# Altium schematic symbol library Compilation.SchLib: 307 symbols (part 2 of 4)
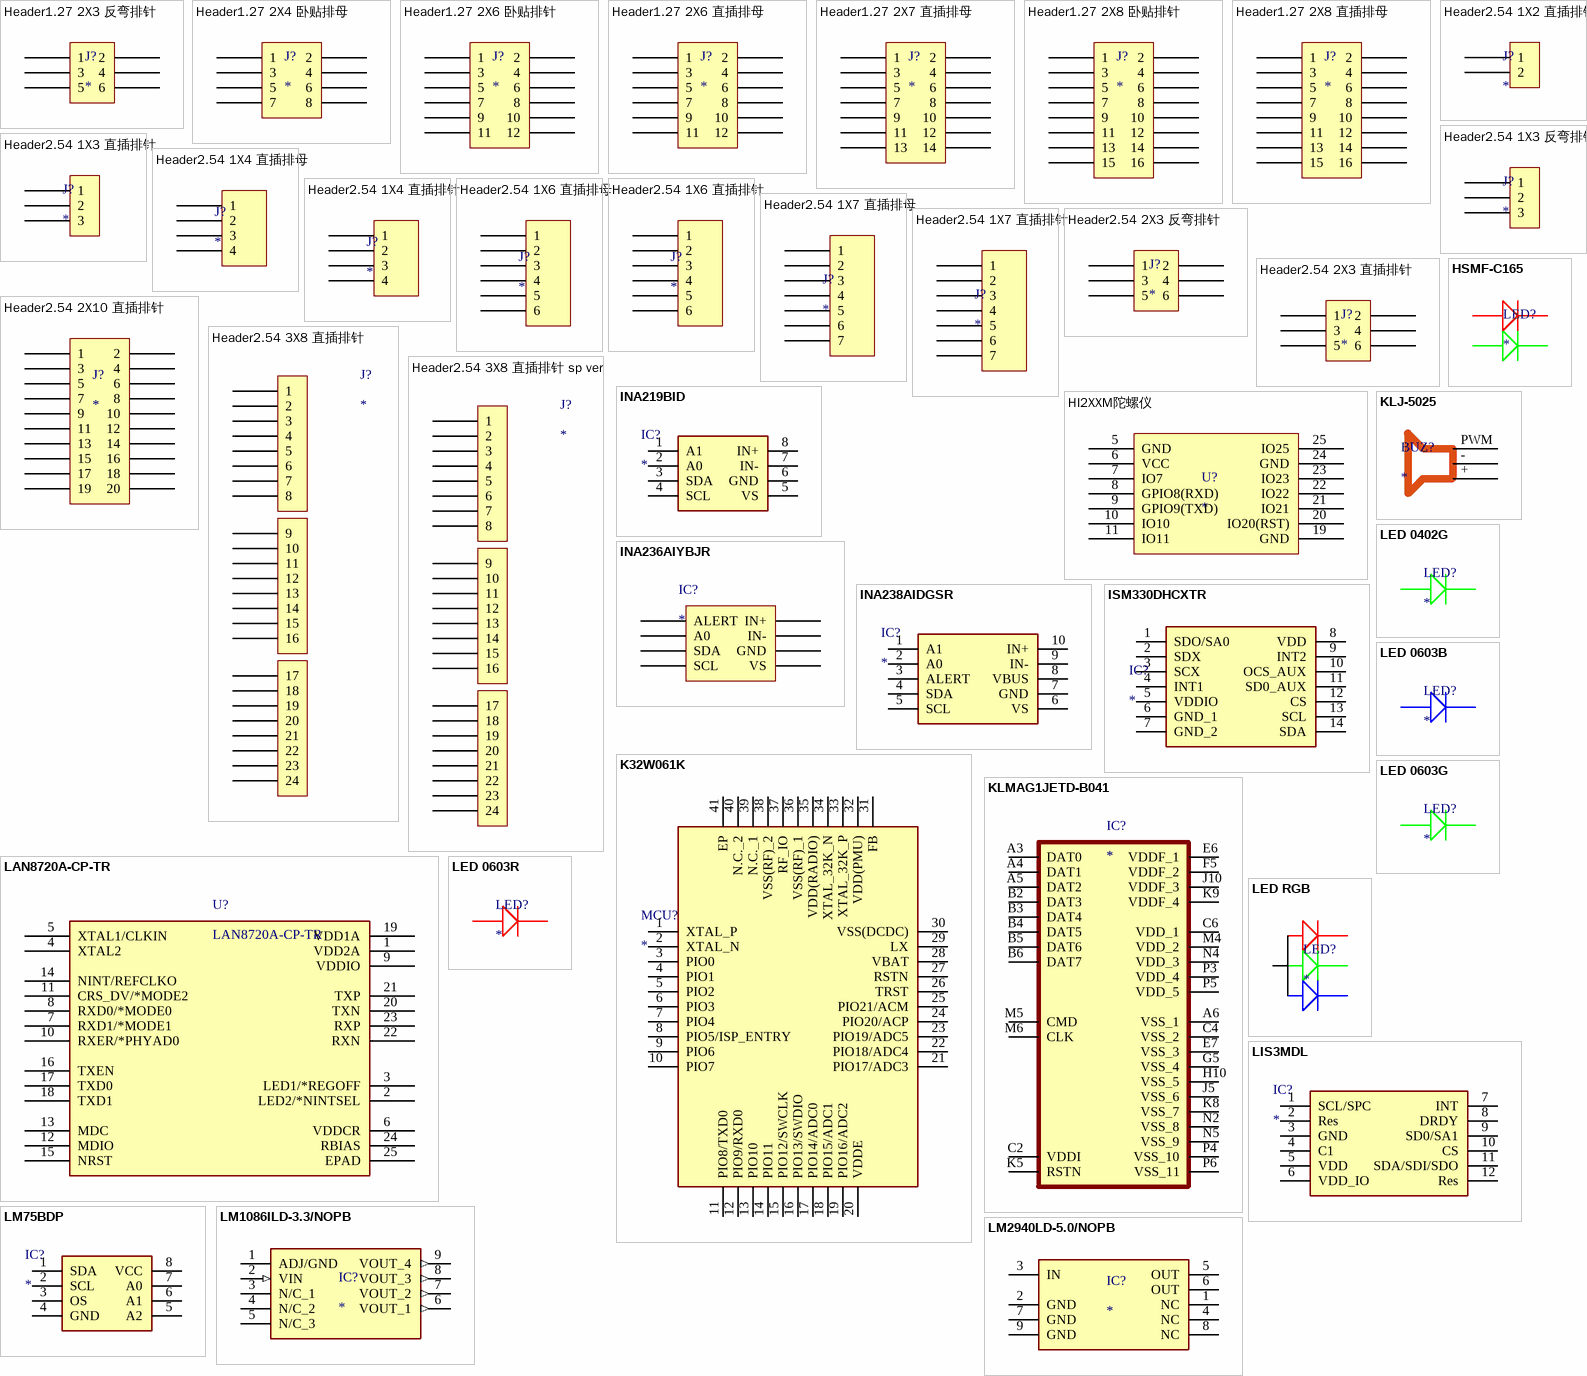
[diagram p18: symbols Header1.27 2X3 反弯排针 to LM2940LD-5.0/NOPB]

## HI2XXM陀螺仪
designator U?
MEMS
footprint HI2XXM陀螺仪
pins: 5 GND, 6 VCC, 7 IO7, 8 GPIO8(RXD), 9 GPIO9(TXD), 10 IO10, 11 IO11, 19 GND, 20 IO20(RST), 21 IO21, 22 IO22, 23 IO23, 24 GND, 25 IO25

## HSMF-C165
designator LED?
LED Red+Green; Manufacturer_Name: Avago Technologies; Manufacturer_Part_Number: HSMF-C165; Datasheet Link: https://www.broadcom.com/products/leds-and-displays/chip-leds/multi-color-surface-mount/hsmf-c165; Mouser Part Number: 630-HSMF-C165; Mouser Price/Stock: https://www.mouser.co.uk/ProductDetail/Broadcom-Avago/HSMF-C165?qs=YDL0qNrpDT44TO%2FTDNga2g%3D%3D
footprint HSMF-C165
pins: 1, 2, 3, 4

## INA219BID
designator IC?
Integrated Circuit; Manufacturer_Name: Texas Instruments; Manufacturer_Part_Number: INA219BID; Datasheet Link: http://www.ti.com/lit/gpn/INA219; Height: 1.75mm; Mouser Part Number: 595-INA219BID; Mouser Price/Stock: https://www.mouser.co.uk/ProductDetail/Texas-Instruments/INA219BID?qs=1WmUhT%2FVMIOEOZ2ZxHP1Nw%3D%3D; Arrow Part Number: INA219BID; Arrow Price/Stock: https://www.arrow.com/en/products/ina219bid/texas-instruments?region=nac
footprint SOIC-8
pins: 1 A1, 2 A0, 3 SDA, 4 SCL, 5 VS, 6 GND, 7 IN-, 8 IN+

## INA236AIYBJR
designator IC?
Integrated Circuit
footprint INA236AIYBJR
pins: A1 ALERT, A2 IN+, B1 A0, B2 IN-, C1 SDA, C2 GND, D1 SCL, D2 VS

## INA238AIDGSR
designator IC?
Integrated Circuit; Manufacturer_Name: Texas Instruments; Manufacturer_Part_Number: INA238AIDGSR; Datasheet Link: https://www.ti.com/lit/ds/symlink/ina238.pdf?ts=1623483707955&ref_url=https%253A%252F%252Fwww.ti.com%252Fstore%252Fti%252Fen%252Fp%252Fproduct%252F%253Fp%253DINA238AIDGSR; Height: 1.1mm; Mouser Part Number: 595-INA238AIDGSR; Mouser Price/Stock: https://www.mouser.co.uk/ProductDetail/Texas-Instruments/INA238AIDGSR?qs=DRkmTr78QAQpWvQMAkqDfQ%3D%3D; Arrow Part Number: INA238AIDGSR; Arrow Price/Stock: https://www.arrow.com/en/products/ina238aidgsr/texas-instruments?region=nac
footprint INA238AIDGSR
pins: 1 A1, 2 A0, 3 ALERT, 4 SDA, 5 SCL, 6 VS, 7 GND, 8 VBUS, 9 IN-, 10 IN+

## ISM330DHCXTR
designator IC?
MEMS; Manufacturer_Name: STMicroelectronics; Manufacturer_Part_Number: ISM330DLCTR; Datasheet Link: http://www.st.com/content/ccc/resource/technical/document/datasheet/group3/84/e6/69/e3/67/b8/43/2d/DM00399923/files/DM00399923.pdf/jcr:content/translations/en.DM00399923.pdf; Mouser Part Number: 511-ISM330DLCTR; Mouser Price/Stock: https://www.mouser.co.uk/ProductDetail/STMicroelectronics/ISM330DLCTR?qs=HXFqYaX1Q2xJsRh9qTmUlw%3D%3D; Arrow Part Number: ISM330DLCTR; Arrow Price/Stock: https://www.arrow.com/en/products/ism330dlctr/stmicroelectronics
footprint ISM330DHCXTR
pins: 1 SDO/SA0, 2 SDX, 3 SCX, 4 INT1, 5 VDDIO, 6 GND_1, 7 GND_2, 8 VDD, 9 INT2, 10 OCS_AUX, 11 SD0_AUX, 12 CS, 13 SCL, 14 SDA

## K32W061K
designator MCU?
MCU; Manufacturer_Name: NXP; Manufacturer_Part_Number: K32W061K; Datasheet Link: https://www.nxp.com/docs/en/data-sheet/K32W061.pdf; Height: 1mm
footprint K32W061K
pins: 1 XTAL_P, 2 XTAL_N, 3 PIO0, 4 PIO1, 5 PIO2, 6 PIO3, 7 PIO4, 8 PIO5/ISP_ENTRY, 9 PIO6, 10 PIO7, 11 PIO8/TXD0, 12 PIO9/RXD0, 13 PIO10, 14 PIO11, 15 PIO12/SWCLK, 16 PIO13/SWDIO, 17 PIO14/ADC0, 18 PIO15/ADC1, 19 PIO16/ADC2, 20 VDDE, 21 PIO17/ADC3, 22 PIO18/ADC4, 23 PIO19/ADC5, 24 PIO20/ACP, 25 PIO21/ACM, 26 TRST, 27 RSTN, 28 VBAT, 29 LX, 30 VSS(DCDC), 31 FB, 32 VDD(PMU), 33 XTAL_32K_P, 34 XTAL_32K_N, 35 VDD(RADIO), 36 VSS(RF)_1, 37 RF_IO, 38 VSS(RF)_2, 39 N.C._1, 40 N.C._2, 41 EP

## KLJ-5025
designator BUZ?
Buzzer
footprint KLJ-5025
pins: 1, 2, 3
text: PWM; -; +

## KLMAG1JETD-B041
designator IC?
Memory; Manufacturer_Name: Samsung; Manufacturer_Part_Number: KLM8G1GETF-B0410; Datasheet Link: https://datasheet.lcsc.com/lcsc/2007301503_Samsung-KLM8G1GETF-B041_C499918.pdf; Height: 0.8mm; Arrow Part Number: KLM8G1GETF-B0410; Arrow Price/Stock: https://www.arrow.com/en/products/klm8g1getf-b0410/samsung-electronics
footprint FBGA153
pins: A3 DAT0, A4 DAT1, A5 DAT2, A6 VSS_1, B2 DAT3, B3 DAT4, B4 DAT5, B5 DAT6, B6 DAT7, C2 VDDI, C4 VSS_2, C6 VDD_1, E6 VDDF_1, E7 VSS_3, F5 VDDF_2, G5 VSS_4, H10 VSS_5, J5 VSS_6, J10 VDDF_3, K5 RSTN, K8 VSS_7, K9 VDDF_4, M4 VDD_2, M5 CMD, M6 CLK, N2 VSS_8, N4 VDD_3, N5 VSS_9, P3 VDD_4, P4 VSS_10, P5 VDD_5, P6 VSS_11

## LAN8720A-CP-TR
designator U?
No Description Available; Mfr_Name: Microchip; Copyright: Copyright (C) 2023 Ultra Librarian. All rights reserved.; Manufacturer_Part_Number: LAN8720A-CP-TR; RefDes: RefDes; Type: DEV
footprint QFN24-6X6
pins: 1 VDD2A (power), 2 LED2/*NINTSEL, 3 LED1/*REGOFF, 4 XTAL2, 5 XTAL1/CLKIN, 6 VDDCR (power), 7 RXD1/*MODE1, 8 RXD0/*MODE0, 9 VDDIO (power), 10 RXER/*PHYAD0, 11 CRS_DV/*MODE2, 12 MDIO, 13 MDC, 14 NINT/REFCLKO, 15 NRST, 16 TXEN, 17 TXD0, 18 TXD1, 19 VDD1A (power), 20 TXN, 21 TXP, 22 RXN, 23 RXP, 24 RBIAS, 25 EPAD

## LED 0402G
designator LED?
LED Green
footprint LED 0402G
pins: 1, 2

## LED 0603B
designator LED?
LED Blue
footprint LED 0603B
pins: 1, 2

## LED 0603G
designator LED?
LED Green
footprint LED 0603G
pins: 1, 2

## LED 0603R
designator LED?
LED Red
footprint LED 0603R
pins: 1, 2

## LED RGB
designator LED?
LED RGB
footprint LED RGB
pins: 1, 2, 3, 4

## LIS3MDL
designator IC?
Integrated Circuit; Manufacturer_Name: STMicroelectronics; Manufacturer_Part_Number: LSM303AGRTR; Datasheet Link: http://www.st.com/content/ccc/resource/technical/document/datasheet/74/c4/19/54/62/c5/46/13/DM00177685.pdf/files/DM00177685.pdf/jcr:content/translations/en.DM00177685.pdf; Mouser Part Number: 511-LSM303AGRTR; Mouser Price/Stock: https://www.mouser.co.uk/ProductDetail/STMicroelectronics/LSM303AGRTR?qs=dTJS0cRn7oj2TlQhcroMCw%3D%3D; Arrow Part Number: LSM303AGRTR; Arrow Price/Stock: https://www.arrow.com/en/products/lsm303agrtr/stmicroelectronics
footprint LIS3MDL
pins: 1 SCL/SPC, 2 Res, 3 GND, 4 C1, 5 VDD, 6 VDD_IO, 7 INT, 8 DRDY, 9 SD0/SA1, 10 CS, 11 SDA/SDI/SDO, 12 Res

## LM75BDP
designator IC?
MEMS; Manufacturer_Name: NXP; Manufacturer_Part_Number: LM75BDP,118; Datasheet Link: http://www.nxp.com/docs/en/data-sheet/LM75B.pdf; Height: 1.1mm; Mouser Part Number: 771-LM75BDP; Mouser Price/Stock: https://www.mouser.co.uk/ProductDetail/NXP-Semiconductors/LM75BDP118?qs=NVaOCIL7CYS15EE%252BCogVfA%3D%3D; Arrow Part Number: LM75BDP,118; Arrow Price/Stock: https://www.arrow.com/en/products/lm75bdp118/nxp-semiconductors?region=nac
footprint TSSOP8
pins: 1 SDA, 2 SCL, 3 OS, 4 GND, 5 A2, 6 A1, 7 A0, 8 VCC

## LM1086ILD-3.3/NOPB
designator IC?
Power Manager; Manufacturer_Name: Texas Instruments; Manufacturer_Part_Number: LM1086ILD-3.3/NOPB; Datasheet Link: http://www.ti.com/lit/ds/symlink/lm1086.pdf; Height: 0.8mm; Mouser Part Number: 926-LM1086ILD33NOPB; Mouser Price/Stock: https://www.mouser.co.uk/ProductDetail/Texas-Instruments/LM1086ILD-33-NOPB?qs=X1J7HmVL2ZFS9csUZPyAEg%3D%3D; Arrow Part Number: LM1086ILD-3.3/NOPB; Arrow Price/Stock: https://www.arrow.com/en/products/lm1086ild-3.3nopb/texas-instruments?region=nac
footprint LM1086ILD-3.3
pins: 1 ADJ/GND (power), 2 VIN (in), 3 N/C_1, 4 N/C_2, 5 N/C_3, 6 VOUT_1 (out), 7 VOUT_2 (out), 8 VOUT_3 (out), 9 VOUT_4 (out)

## LM2940LD-5.0/NOPB
designator IC?
Power Manager; Manufacturer_Name: Texas Instruments; Manufacturer_Part_Number: LM1086ILD-3.3/NOPB; Datasheet Link: http://www.ti.com/lit/ds/symlink/lm1086.pdf; Height: 0.8mm; Mouser Part Number: 926-LM1086ILD33NOPB; Mouser Price/Stock: https://www.mouser.co.uk/ProductDetail/Texas-Instruments/LM1086ILD-33-NOPB?qs=X1J7HmVL2ZFS9csUZPyAEg%3D%3D; Arrow Part Number: LM1086ILD-3.3/NOPB; Arrow Price/Stock: https://www.arrow.com/en/products/lm1086ild-3.3nopb/texas-instruments?region=nac
footprint LM2940LD-5.0/NOPB
pins: 1 NC (power), 2 GND, 3 IN, 4 NC, 5 OUT, 6 OUT, 7 GND, 8 NC, 9 GND

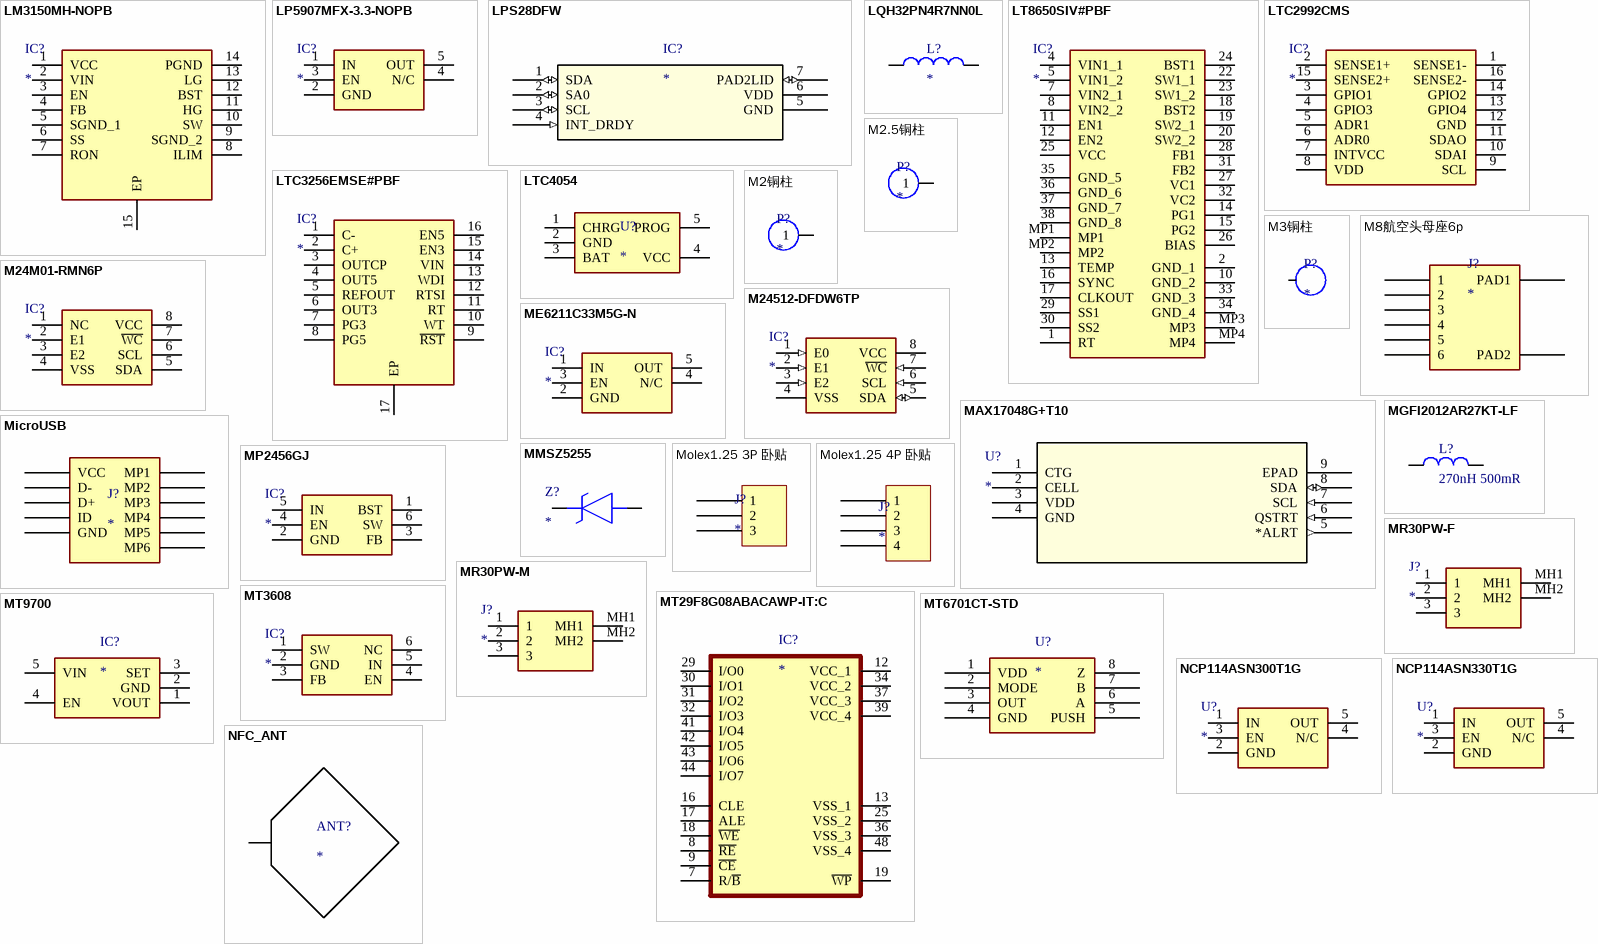
[diagram p4: symbols LM3150MH-NOPB to NFC_ANT]

## LM3150MH-NOPB
designator IC?
Power Manager; Manufacturer_Name: Texas Instruments; Manufacturer_Part_Number: LM3150MH/NOPB; Datasheet Link: http://www.ti.com/lit/ds/symlink/lm3150.pdf; Height: 1.1mm; Mouser Part Number: 926-LM3150MH/NOPB; Mouser Price/Stock: https://www.mouser.co.uk/ProductDetail/Texas-Instruments/LM3150MH-NOPB?qs=X1J7HmVL2ZHJ%2FS5n%2FpwmDw%3D%3D; Arrow Part Number: LM3150MH/NOPB; Arrow Price/Stock: https://www.arrow.com/en/products/lm3150mhnopb/texas-instruments?region=nac
footprint LM3150MH-NOPB
pins: 1 VCC, 2 VIN, 3 EN, 4 FB, 5 SGND_1, 6 SS, 7 RON, 8 ILIM, 9 SGND_2, 10 SW, 11 HG, 12 BST, 13 LG, 14 PGND, 15 EP

## LP5907MFX-3.3-NOPB
designator IC?
Power Manager; Manufacturer_Name: Texas Instruments; Manufacturer_Part_Number: LP5907MFX-3.3/NOPB; Datasheet Link: https://datasheet.datasheetarchive.com/originals/distributors/Datasheets-SFU2/DSASFU100037200.pdf; Height: 1.45mm; Mouser Part Number: 595-LP5907MFX-3.3NPB; Mouser Price/Stock: https://www.mouser.co.uk/ProductDetail/Texas-Instruments/LP5907MFX-33-NOPB?qs=biyDIajrTn6NhrJCoL%2FdSQ%3D%3D; Arrow Part Number: LP5907MFX-3.3/NOPB; Arrow Price/Stock: https://www.arrow.com/en/products/lp5907mfx-3.3nopb/texas-instruments?region=nac
footprint LP5907MFX-3.3
pins: 1 IN, 2 GND, 3 EN, 4 N/C, 5 OUT

## LPS28DFW
designator IC?
MEMS; Mfr_Name: STMicroelectronics; Manufacturer_Part_Number: LPS28DFWTR; Copyright: Copyright (C) 2022 Ultra Librarian. All rights reserved.; RefDes: RefDes; Type: DEV
footprint LPS28DFW
pins: 1 SDA (io), 2 SA0 (io), 3 SCL (io), 4 INT_DRDY (in), 5 GND, 6 VDD (power), 7 PAD2LID (io)

## LQH32PN4R7NN0L
designator L?
Inductor; Manufacturer_Name: Murata Electronics; Manufacturer_Part_Number: LQH32PN4R7NN0L; Datasheet Link: https://psearch.en.murata.com/inductor/product/LQH32PN4R7NN0%23.html; Height: 1.7mm; Mouser Part Number: 81-LQH32PN4R7NN0L; Mouser Price/Stock: https://www.mouser.co.uk/ProductDetail/Murata-Electronics/LQH32PN4R7NN0L?qs=%2F%252BYoplLUB5iYUGwlL6N%252BWA%3D%3D; Arrow Part Number: LQH32PN4R7NN0L; Arrow Price/Stock: https://www.arrow.com/en/products/lqh32pn4r7nn0l/murata-manufacturing?region=europe
footprint LQH32PN4R7NN0L
pins: 1, 2

## LT8650SIV#PBF
designator IC?
Power Manager; Manufacturer_Name: Analog Devices; Manufacturer_Part_Number: LT8650SIV#PBF; Datasheet Link: https://www.arrow.com/en/products/lt8650sivpbf/analog-devices; Height: 1.03mm; Mouser Part Number: 584-LT8650SIVPBF; Mouser Price/Stock: https://www.mouser.co.uk/ProductDetail/Analog-Devices/LT8650SIVPBF?qs=xhbEVWpZdWcEXgHZH75prQ%3D%3D; Arrow Part Number: LT8650SIV#PBF; Arrow Price/Stock: https://www.arrow.com/en/products/lt8650sivpbf/analog-devices
footprint LT8650SEV#PBF
pins: 1 RT, 2 GND_1, 4 VIN1_1, 5 VIN1_2, 7 VIN2_1, 8 VIN2_2, 10 GND_2, 11 EN1, 12 EN2, 13 TEMP, 14 PG1, 15 PG2, 16 SYNC, 17 CLKOUT, 18 BST2, 19 SW2_1, 20 SW2_2, 22 SW1_1, 23 SW1_2, 24 BST1, 25 VCC, 26 BIAS, 27 VC1, 28 FB1, 29 SS1, 30 SS2, 31 FB2, 32 VC2, 33 GND_3, 34 GND_4, 35 GND_5, 36 GND_6, 37 GND_7, 38 GND_8, MP1, MP2, MP3, MP4

## LTC2992CMS
designator IC?
Integrated Circuit; Manufacturer_Name: Linear Technology; Manufacturer_Part_Number: LTC2992CMS#TRPBF; Datasheet Link: https://datasheet.datasheetarchive.com/originals/distributors/DKDS-14/270197.pdf; Height: 1.1mm; Mouser Part Number: 584-LTC2992CMSTRPBF; Mouser Price/Stock: https://www.mouser.com/Search/Refine.aspx?Keyword=584-LTC2992CMSTRPBF
footprint LTC2992CMS
pins: 1 SENSE1-, 2 SENSE1+, 3 GPIO1, 4 GPIO3, 5 ADR1, 6 ADR0, 7 INTVCC, 8 VDD, 9 SCL, 10 SDAI, 11 SDAO, 12 GND, 13 GPIO4, 14 GPIO2, 15 SENSE2+, 16 SENSE2-

## LTC3256EMSE#PBF
designator IC?
Integrated Circuit; Manufacturer_Name: Linear Technology; Manufacturer_Part_Number: LTC3256IMSE#PBF; Datasheet Link: http://cds.linear.com/docs/en/datasheet/3256fb.pdf; Height: 1.1mm; Mouser Part Number: 584-LTC3256IMSE#PBF; Mouser Price/Stock: https://www.mouser.co.uk/ProductDetail/Analog-Devices-Linear-Technology/LTC3256IMSEPBF?qs=oahfZPh6IAL5S2R1yYja1A%3D%3D; Arrow Part Number: LTC3256IMSE#PBF; Arrow Price/Stock: https://www.arrow.com/en/products/ltc3256imsepbf/linear-technology
footprint LTC3256EMSE#PBF
pins: 1 C-, 2 C+, 3 OUTCP, 4 OUT5, 5 REFOUT, 6 OUT3, 7 PG3, 8 PG5, 9 ~{RST}, 10 WT, 11 RT, 12 RTSI, 13 WDI, 14 VIN, 15 EN3, 16 EN5, 17 EP

## LTC4054
designator U?
Power Manager
footprint SOT23-5
pins: 1 CHRG, 2 GND, 3 BAT, 4 VCC, 5 PROG

## M2.5铜柱
designator P?
Hole M2.5
footprint M2.5铜柱(no 3d model)
pins: 1

## M2铜柱
designator P?
Hole M2
footprint M2铜柱(no 3d model)
pins: 1

## M3铜柱
designator P?
Hole M3X4+6
footprint M3x4+6铜柱
pins: 1

## M8航空头母座6p
designator J?
Connector
footprint M8航空头母座6p
pins: 1, 2, 3, 4, 5, 6, PAD1, PAD2

## M24M01-RMN6P
designator IC?
Memory; Manufacturer_Name: STMicroelectronics; Manufacturer_Part_Number: M24M01-RMN6P; Datasheet Link: https://datasheet.datasheetarchive.com/originals/distributors/SFDatasheet-5/sf-000111818.pdf; Height: 1.75mm; Mouser Part Number: 511-M24M01-RMN6P; Mouser Price/Stock: https://www.mouser.co.uk/ProductDetail/STMicroelectronics/M24M01-RMN6P?qs=Djavi1aLnwpufYbzjHXCEA%3D%3D; Arrow Part Number: M24M01-RMN6P; Arrow Price/Stock: https://www.arrow.com/en/products/m24m01-rmn6p/stmicroelectronics?region=nac
footprint SOIC-8
pins: 1 NC, 2 E1, 3 E2, 4 VSS, 5 SDA, 6 SCL, 7 ~{WC}, 8 VCC

## M24512-DFDW6TP
designator IC?
Memory; Manufacturer_Name: STMicroelectronics; Manufacturer_Part_Number: M24512-DFDW6TP; Datasheet Link: https://www.arrow.com/en/products/m24512-dfdw6tp/stmicroelectronics; Height: 1.2mm; Mouser Part Number: 511-M24512-DFDW6TP; Mouser Price/Stock: https://www.mouser.co.uk/ProductDetail/STMicroelectronics/M24512-DFDW6TP?qs=gNDSiZmRJS9C0LA%252B72O%2FCg%3D%3D; Arrow Part Number: M24512-DFDW6TP; Arrow Price/Stock: https://www.arrow.com/en/products/m24512-dfdw6tp/stmicroelectronics?region=nac
footprint M24512-DFDW6TP
pins: 1 E0 (in), 2 E1 (in), 3 E2 (in), 4 VSS (power), 5 SDA (io), 6 SCL (in), 7 ~{WC} (in), 8 VCC (power)

## MAX17048G+T10
designator U?
No Description Available; Mfr_Name: Analog Devices Inc; RefDes: RefDes; Type: Type
footprint TDFN-8
pins: 1 CTG, 2 CELL, 3 VDD (power), 4 GND (power), 5 *ALRT (out), 6 QSTRT (in), 7 SCL (in), 8 SDA (io), 9 EPAD

## ME6211C33M5G-N
designator IC?
Integrated Circuit; Manufacturer_Name: Texas Instruments; Manufacturer_Part_Number: LP5907MFX-3.3/NOPB; Datasheet Link: https://datasheet.datasheetarchive.com/originals/distributors/Datasheets-SFU2/DSASFU100037200.pdf; Height: 1.45mm; Mouser Part Number: 595-LP5907MFX-3.3NPB; Mouser Price/Stock: https://www.mouser.co.uk/ProductDetail/Texas-Instruments/LP5907MFX-33-NOPB?qs=biyDIajrTn6NhrJCoL%2FdSQ%3D%3D; Arrow Part Number: LP5907MFX-3.3/NOPB; Arrow Price/Stock: https://www.arrow.com/en/products/lp5907mfx-3.3nopb/texas-instruments?region=nac
footprint SOT23-5
pins: 1 IN, 2 GND, 3 EN, 4 N/C, 5 OUT

## MGFI2012AR27KT-LF
designator L?, comment 270nH 500mR
Inductor
footprint FB0805
pins: 1, 2

## MicroUSB
designator J?
Micro USB
footprint MicroUSB (间距6.4)
pins: 1 VCC, 2 D-, 3 D+, 4 ID, 5 GND, MP1, MP2, MP3, MP4, MP5, MP6

## MMSZ5255
designator Z?
Diode; Manufacturer_Name: ON Semiconductor; Manufacturer_Part_Number: MMSZ5255BT1G; Datasheet Link: http://www.onsemi.com/pub/Collateral/MMSZ5221BT1-D.PDF; Height: 1.35mm; Mouser Part Number: 863-MMSZ5255BT1G; Mouser Price/Stock: https://www.mouser.co.uk/ProductDetail/ON-Semiconductor/MMSZ5255BT1G?qs=P4IOph%252Bbot%2FgHALVE7f5PQ%3D%3D; Arrow Part Number: MMSZ5255BT1G; Arrow Price/Stock: https://www.arrow.com/en/products/mmsz5255bt1g/on-semiconductor
footprint MMSZ5255
pins: 1 K, 2 A

## Molex1.25 3P 卧贴
designator J?
Connector
footprint MOLEX1.25卧-3P
pins: 1, 2, 3

## Molex1.25 4P 卧贴
designator J?
Connector
footprint MOLEX1.25卧-4P
pins: 1, 2, 3, 4

## MP2456GJ
designator IC?
Power Manager; Manufacturer_Name: Monolithic Power Systems (MPS); Manufacturer_Part_Number: MP2456GJ-P; Datasheet Link: https://media.monolithicpower.com/document/MP2456_r1.01.pdf; Height: 1mm; Mouser Part Number: 946-MP2456GJ-P; Mouser Price/Stock: https://www.mouser.co.uk/ProductDetail/Monolithic-Power-Systems-MPS/MP2456GJ-P?qs=IW9Tsl75qsXKFSfDwfYogw%3D%3D
footprint MP2456GJ
pins: 1 BST, 2 GND, 3 FB, 4 EN, 5 IN, 6 SW

## MR30PW-F
designator J?
Connector; Manufacturer_Name: Amass; Manufacturer_Part_Number: MR30PW-FB; Datasheet Link: https://www.tme.eu/Document/5e47640ba39fa492dbd4c0f4c8ae7b93/MR30PW%20SPEC.pdf; Height: 5.3mm
footprint MR30PW-F
pins: 1, 2, 3, MH1, MH2

## MR30PW-M
designator J?
Connector; Manufacturer_Name: Amass; Manufacturer_Part_Number: MR30PW-M; Datasheet Link: https://www.tme.eu/Document/5e47640ba39fa492dbd4c0f4c8ae7b93/MR30PW%20SPEC.pdf; Height: 5.3mm
footprint MR30PW-M
pins: 1, 2, 3, MH1, MH2

## MT29F8G08ABACAWP-IT:C
designator IC?
Integrated Circuit; Manufacturer_Name: Micron; Manufacturer_Part_Number: MT29F4G08ABADAWP-AITX:D TR; Height: 1.2mm; Mouser Part Number: 340-257995-REEL; Mouser Price/Stock: https://www.mouser.co.uk/ProductDetail/Micron/MT29F4G08ABADAWP-AITXD-TR?qs=taEdVNyAfdEKiU4YNAbvJw%3D%3D; Arrow Part Number: MT29F4G08ABADAWP-AITX:D TR; Arrow Price/Stock: https://www.arrow.com/en/products/mt29f4g08abadawp-aitxd-tr/micron-technology?region=nac
footprint TSOP48
pins: 7 R/~{B}, 8 ~{RE}, 9 ~{CE}, 12 VCC_1, 13 VSS_1, 16 CLE, 17 ALE, 18 ~{WE}, 19 ~{WP}, 25 VSS_2, 29 I/O0, 30 I/O1, 31 I/O2, 32 I/O3, 34 VCC_2, 36 VSS_3, 37 VCC_3, 39 VCC_4, 41 I/O4, 42 I/O5, 43 I/O6, 44 I/O7, 48 VSS_4

## MT3608
designator IC?
Power Manager; Manufacturer_Name: Texas Instruments; Manufacturer_Part_Number: LP5907MFX-3.3/NOPB; Datasheet Link: https://datasheet.datasheetarchive.com/originals/distributors/Datasheets-SFU2/DSASFU100037200.pdf; Height: 1.45mm; Mouser Part Number: 595-LP5907MFX-3.3NPB; Mouser Price/Stock: https://www.mouser.co.uk/ProductDetail/Texas-Instruments/LP5907MFX-33-NOPB?qs=biyDIajrTn6NhrJCoL%2FdSQ%3D%3D; Arrow Part Number: LP5907MFX-3.3/NOPB; Arrow Price/Stock: https://www.arrow.com/en/products/lp5907mfx-3.3nopb/texas-instruments?region=nac
footprint SOT23-6
pins: 1 SW, 2 GND, 3 FB, 4 EN, 5 IN, 6 NC

## MT6701CT-STD
designator U?
Positon Sensor
footprint SOIC-8
pins: 1 VDD, 2 MODE, 3 OUT, 4 GND, 5 PUSH, 6 A, 7 B, 8 Z

## MT9700
designator IC?
Integrated Circuit; Manufacturer_Name: Aerosemi; Manufacturer_Part_Number: MT9700; Datasheet Link: https://datasheet.lcsc.com/szlcsc/1809291208_XI-AN-Aerosemi-Tech-MT9700_C89855.pdf; Height: 1.35mm
footprint MT9700
pins: 1 VOUT, 2 GND, 3 SET, 4 EN, 5 VIN

## NCP114ASN300T1G
designator U?
Power Manager; Manufacturer_Name: Texas Instruments; Manufacturer_Part_Number: LP5907MFX-3.3/NOPB; Datasheet Link: https://datasheet.datasheetarchive.com/originals/distributors/Datasheets-SFU2/DSASFU100037200.pdf; Height: 1.45mm; Mouser Part Number: 595-LP5907MFX-3.3NPB; Mouser Price/Stock: https://www.mouser.co.uk/ProductDetail/Texas-Instruments/LP5907MFX-33-NOPB?qs=biyDIajrTn6NhrJCoL%2FdSQ%3D%3D; Arrow Part Number: LP5907MFX-3.3/NOPB; Arrow Price/Stock: https://www.arrow.com/en/products/lp5907mfx-3.3nopb/texas-instruments?region=nac
footprint SOT23-5
pins: 1 IN, 2 GND, 3 EN, 4 N/C, 5 OUT

## NCP114ASN330T1G
designator U?
Power Manager; Manufacturer_Name: Texas Instruments; Manufacturer_Part_Number: LP5907MFX-3.3/NOPB; Datasheet Link: https://datasheet.datasheetarchive.com/originals/distributors/Datasheets-SFU2/DSASFU100037200.pdf; Height: 1.45mm; Mouser Part Number: 595-LP5907MFX-3.3NPB; Mouser Price/Stock: https://www.mouser.co.uk/ProductDetail/Texas-Instruments/LP5907MFX-33-NOPB?qs=biyDIajrTn6NhrJCoL%2FdSQ%3D%3D; Arrow Part Number: LP5907MFX-3.3/NOPB; Arrow Price/Stock: https://www.arrow.com/en/products/lp5907mfx-3.3nopb/texas-instruments?region=nac
footprint SOT23-5
pins: 1 IN, 2 GND, 3 EN, 4 N/C, 5 OUT

## NFC_ANT
designator ANT?
ANT
footprint NFC_ANT1 (900nH)
pins: 1

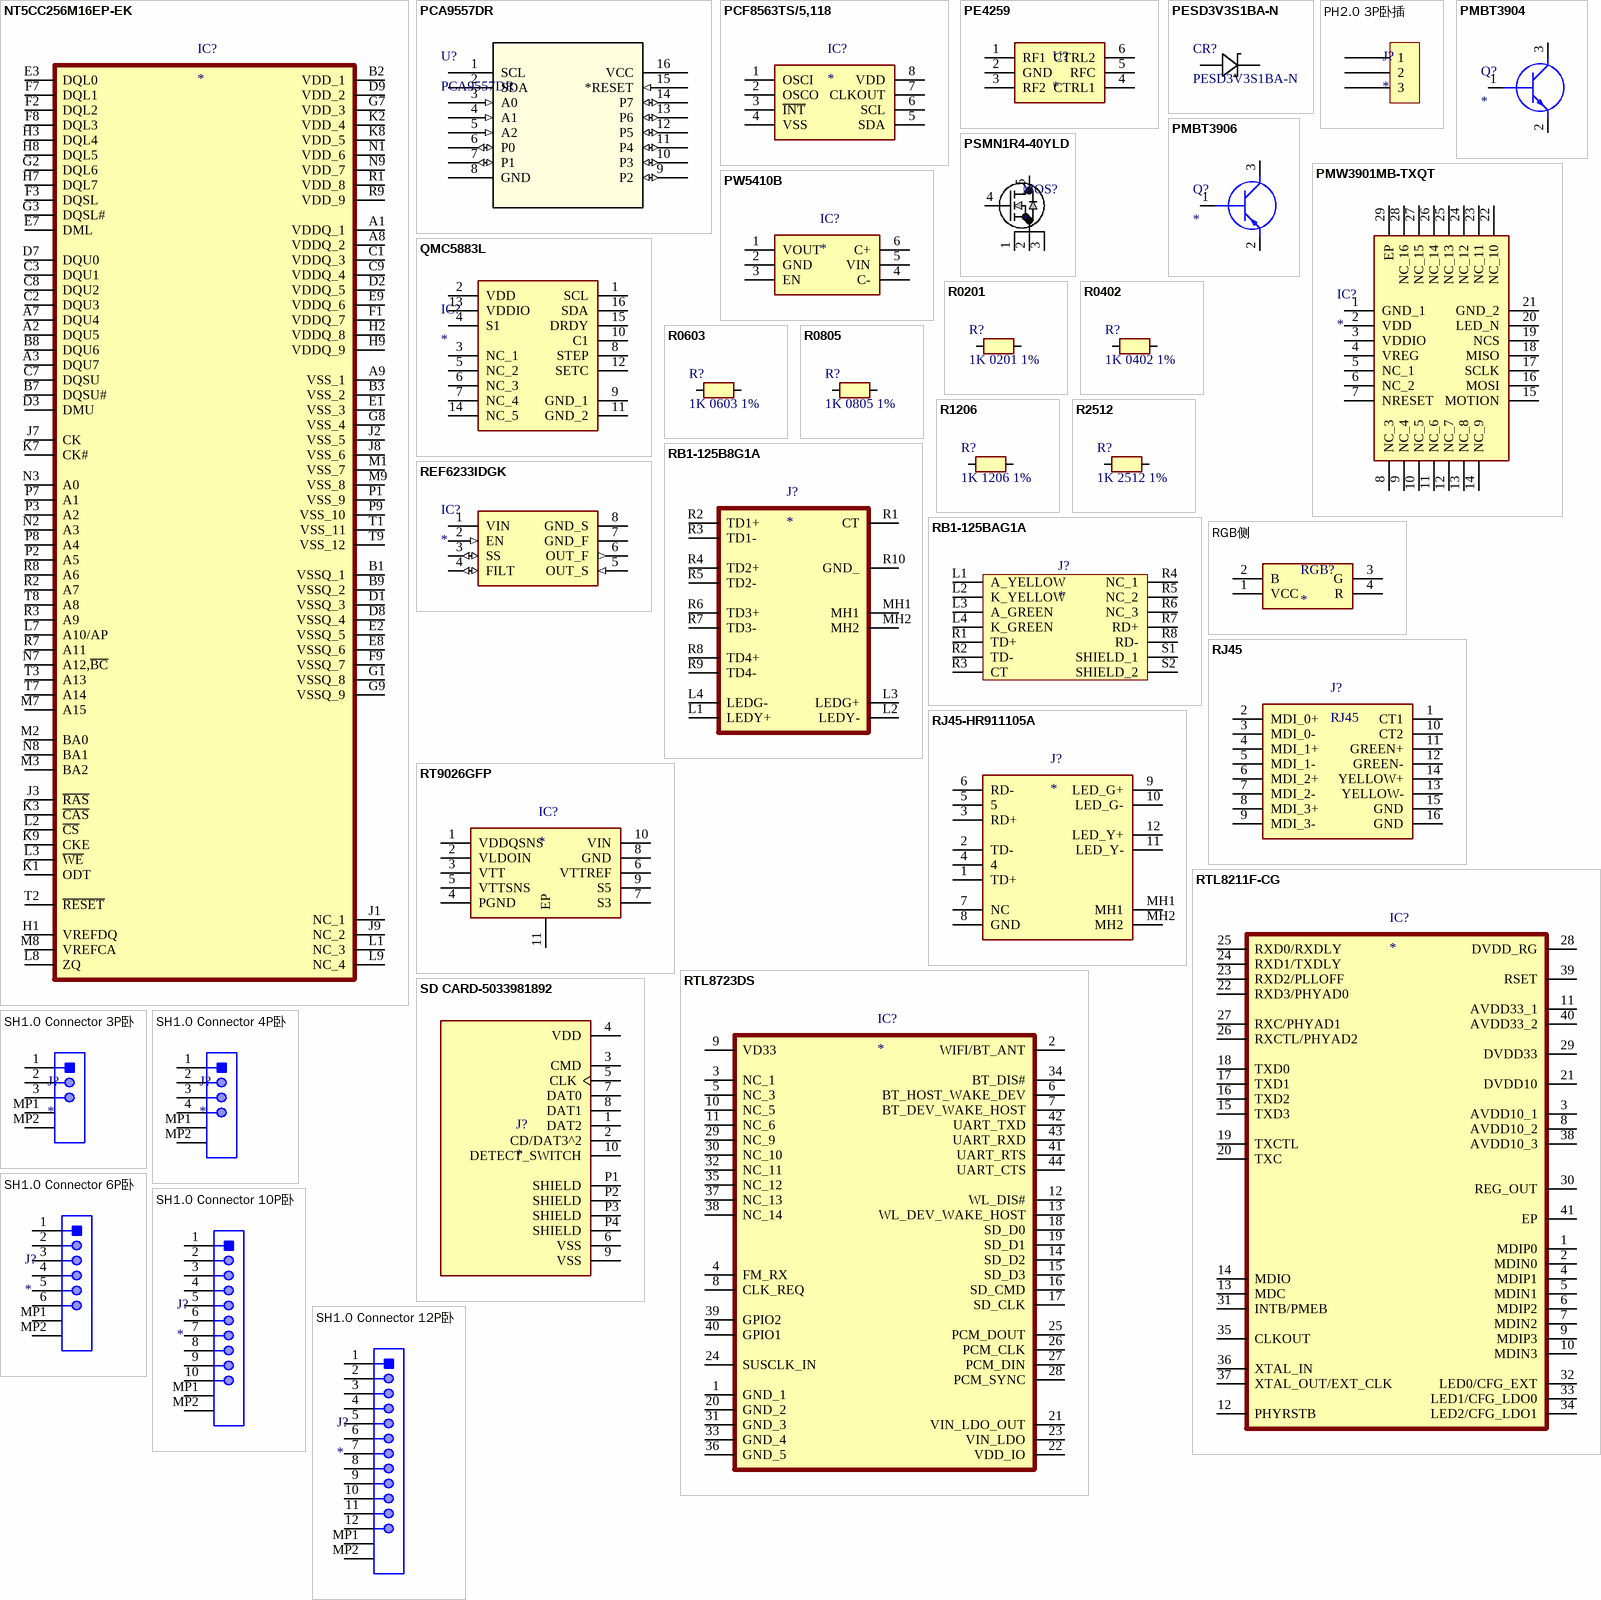
[diagram p5: symbols NT5CC256M16EP-EK to SH1.0 Connector 12P卧]

## NT5CC256M16EP-EK
designator IC?
Integrated Circuit; Manufacturer_Name: Nanya; Manufacturer_Part_Number: NT5CC128M16IP-DIT; Datasheet Link: https://static6.arrow.com/aropdfconversion/4870b2314d92e311d08df94e91cdbd8b3609b896/357986404255011135798553711652932gb_ddr3_i_die_component_datasheet.pdf.pdf; Height: 1mm; Arrow Part Number: NT5CC128M16IP-DIT; Arrow Price/Stock: https://www.arrow.com/en/products/nt5cc128m16ip-dit/nanya-technology
footprint VFBGA96
pins: A1 VDDQ_1, A2 DQU5, A3 DQU7, A7 DQU4, A8 VDDQ_2, A9 VSS_1, B1 VSSQ_1, B2 VDD_1, B3 VSS_2, B7 DQSU#, B8 DQU6, B9 VSSQ_2, C1 VDDQ_3, C2 DQU3, C3 DQU1, C7 DQSU, C8 DQU2, C9 VDDQ_4, D1 VSSQ_3, D2 VDDQ_5, D3 DMU, D7 DQU0, D8 VSSQ_4, D9 VDD_2, E1 VSS_3, E2 VSSQ_5, E3 DQL0, E7 DML, E8 VSSQ_6, E9 VDDQ_6, F1 VDDQ_7, F2 DQL2, F3 DQSL, F7 DQL1, F8 DQL3, F9 VSSQ_7, G1 VSSQ_8, G2 DQL6, G3 DQSL#, G7 VDD_3, G8 VSS_4, G9 VSSQ_9, H1 VREFDQ, H2 VDDQ_8, H3 DQL4, H7 DQL7, H8 DQL5, H9 VDDQ_9, J1 NC_1, J2 VSS_5, J3 ~{RAS}, J7 CK, J8 VSS_6, J9 NC_2, K1 ODT, K2 VDD_4, K3 ~{CAS}, K7 CK#, K8 VDD_5, K9 CKE, L1 NC_3, L2 ~{CS}, L3 ~{WE}, L7 A10/AP, L8 ZQ, L9 NC_4, M1 VSS_7, M2 BA0, M3 BA2, M7 A15, M8 VREFCA, M9 VSS_8, N1 VDD_6, N2 A3, N3 A0, N7 A12,~{BC}, N8 BA1, N9 VDD_7, P1 VSS_9, P2 A5, P3 A2, P7 A1, P8 A4, P9 VSS_10, R1 VDD_8, R2 A7, R3 A9, R7 A11, R8 A6, R9 VDD_9, T1 VSS_11, T2 ~{RESET}, T3 A13, T7 A14, T8 A8, T9 VSS_12

## PCA9557DR
designator U?
Integrated Circuit; Mfr_Name: Texas Instruments; Copyright: Copyright (C) 2023 Ultra Librarian. All rights reserved.; Manufacturer_Part_Number: PCA9557DR; RefDes: RefDes; Type: DEV
footprint TSSOP16
pins: 1 SCL, 2 SDA, 3 A0 (in), 4 A1 (in), 5 A2 (in), 6 P0 (io), 7 P1 (io), 8 GND (power), 9 P2 (io), 10 P3 (io), 11 P4 (io), 12 P5 (io), 13 P6 (io), 14 P7 (io), 15 *RESET (in), 16 VCC (power)

## PCF8563TS/5,118
designator IC?
Integrated Circuit; Manufacturer_Name: NXP; Manufacturer_Part_Number: PCF8563TS/5,118; Datasheet Link: http://www.nxp.com/docs/en/data-sheet/PCF8563.pdf; Height: 1.1mm; Mouser Part Number: 771-PCF8563TS/5118; Mouser Price/Stock: https://www.mouser.co.uk/ProductDetail/NXP-Semiconductors/PCF8563TS-5118?qs=beN0Cyoe8Ynnzly4fQaDyw%3D%3D; Arrow Part Number: PCF8563TS/5,118; Arrow Price/Stock: https://www.arrow.com/en/products/pcf8563ts5118/nxp-semiconductors?region=nac
footprint PCF8563TS/5,118
pins: 1 OSCI, 2 OSCO, 3 ~{INT}, 4 VSS, 5 SDA, 6 SCL, 7 CLKOUT, 8 VDD

## PE4259
designator U?
RF Switch
footprint PE4259
pins: 1 RF1, 2 GND, 3 RF2, 4 CTRL1, 5 RFC, 6 CTRL2

## PESD3V3S1BA-N
designator CR?
Diode; Mfr_Name: NXP; Manufacturer_Part_Number: PESD3V3S1UB; Type: DEV; Copyright: Copyright (C) 2023 Ultra Librarian. All rights reserved.; RefDes: RefDes
footprint SOD523 (Footprint not found)
pins: 1, 2

## PH2.0 3P卧插
designator J?
PH2.0
footprint PH2.0 3P卧插
pins: 1, 2, 3

## PMBT3904
designator Q?
Transistor BJT NPN; Manufacturer_Name: Nexperia; Manufacturer_Part_Number: PMBT3904,215; Datasheet Link: http://assets.nexperia.com/documents/data-sheet/PMBT3904.pdf; Height: 1.1mm; Mouser Part Number: 771-PMBT3904-T/R; Mouser Price/Stock: https://www.mouser.co.uk/ProductDetail/Nexperia/PMBT3904215?qs=LOCUfHb8d9tXximHEgx1nw%3D%3D; Arrow Part Number: PMBT3904,215; Arrow Price/Stock: https://www.arrow.com/en/products/pmbt3904215/nexperia
footprint PMBT3904
pins: 1 B, 2 E, 3 C

## PMBT3906
designator Q?
Transistor BJT PNP; Manufacturer_Name: Nexperia; Manufacturer_Part_Number: PMBT3906,235; Datasheet Link: http://assets.nexperia.com/documents/data-sheet/PMBT3906.pdf; Height: 1.1mm; Mouser Part Number: 771-PMBT3906235; Mouser Price/Stock: https://www.mouser.co.uk/ProductDetail/Nexperia/PMBT3906235?qs=LOCUfHb8d9tZESb%2FzqnQ2g%3D%3D; Arrow Part Number: PMBT3906,235; Arrow Price/Stock: https://www.arrow.com/en/products/pmbt3906235/nexperia
footprint PMBT3906
pins: 1 B, 2 E, 3 C

## PMW3901MB-TXQT
designator IC?
Integrated Circuit; Manufacturer_Name: PixArt Imaging Inc.; Manufacturer_Part_Number: PMW3901MB-TXQT; Height: 2.36mm
footprint PMW3901MB-TXQT
pins: 1 GND_1, 2 VDD, 3 VDDIO, 4 VREG, 5 NC_1, 6 NC_2, 7 NRESET, 8 NC_3, 9 NC_4, 10 NC_5, 11 NC_6, 12 NC_7, 13 NC_8, 14 NC_9, 15 MOTION, 16 MOSI, 17 SCLK, 18 MISO, 19 NCS, 20 LED_N, 21 GND_2, 22 NC_10, 23 NC_11, 24 NC_12, 25 NC_13, 26 NC_14, 27 NC_15, 28 NC_16, 29 EP

## PSMN1R4-40YLD
designator MOS?
MOSFET N-ch; Manufacturer_Name: Nexperia; Manufacturer_Part_Number: PSMN3R3-40YS,115; Datasheet Link: https://assets.nexperia.com/documents/data-sheet/PSMN3R3-40YS.pdf; Mouser Part Number: 771-PSMN3R340YS115; Mouser Price/Stock: https://www.mouser.co.uk/ProductDetail/Nexperia/PSMN3R3-40YS115?qs=5eMHoInnifQYp9k8LXGrKQ%3D%3D; Arrow Part Number: PSMN3R3-40YS,115; Arrow Price/Stock: https://www.arrow.com/en/products/psmn3r3-40ys115/nexperia?region=nac
footprint PSMN1R4-40YLD (MOSFET N-ch)
pins: 1 S, 2 S, 3 S, 4 G, 5 D

## PW5410B
designator IC?
Power
footprint SOT23-6
pins: 1 VOUT, 2 GND, 3 EN, 4 C-, 5 VIN, 6 C+

## QMC5883L
designator IC?
Integrated Circuit; Manufacturer_Name: QST; Manufacturer_Part_Number: qmc5883; Height: 1.02mm
footprint QMC5883L
pins: 1 SCL, 2 VDD, 3 NC_1, 4 S1, 5 NC_2, 6 NC_3, 7 NC_4, 8 STEP, 9 GND_1, 10 C1, 11 GND_2, 12 SETC, 13 VDDIO, 14 NC_5, 15 DRDY, 16 SDA

## R0201
designator R?, comment 1K 0201 1%
Resistor; Manufacturer_Name: Bourns; Manufacturer_Part_Number: CR0402; Datasheet Link: https://www.bourns.com/docs/product-datasheets/CRxxxxx.pdf; Height: 0.37mm
footprint R0201 (1/20W 15V -55 to +125°C （AVX电阻）)
pins: 1, 2

## R0402
designator R?, comment 1K 0402 1%
Resistor; Manufacturer_Name: Bourns; Manufacturer_Part_Number: CR0402; Datasheet Link: https://www.bourns.com/docs/product-datasheets/CRxxxxx.pdf; Height: 0.37mm
footprint R0402
pins: 1, 2

## R0603
designator R?, comment 1K 0603 1%
Resistor; Manufacturer_Name: Bourns; Manufacturer_Part_Number: CR0603-JW-681ELF; Datasheet Link: https://www.bourns.com/pdfs/chpreztr.pdf; Height: 0.55mm; Arrow Part Number: CR0603-JW-681ELF; Arrow Price/Stock: https://www.arrow.com/en/products/cr0603-jw-681elf/bourns
footprint R0603
pins: 1, 2

## R0805
designator R?, comment 1K 0805 1%
Resistor; Manufacturer_Name: Bourns; Manufacturer_Part_Number: CR0805-JW-105ELF; Datasheet Link: https://www.bourns.com/pdfs/chpreztr.pdf; Height: 0.6mm; Mouser Part Number: 652-CR0805JW-105ELF; Mouser Price/Stock: https://www.mouser.co.uk/ProductDetail/Bourns/CR0805-JW-105ELF?qs=wL7NMIHXUPmHUr27Tf8%2FAw%3D%3D; Arrow Part Number: CR0805-JW-105ELF; Arrow Price/Stock: https://www.arrow.com/en/products/cr0805-jw-105elf/bourns?region=nac
footprint R0805
pins: 1, 2

## R1206
designator R?, comment 1K 1206 1%
Resistor
footprint R1206
pins: 1, 2

## R2512
designator R?, comment 1K 2512 1%
Resistor
footprint R2512
pins: 1, 2

## RB1-125B8G1A
designator J?
Connector; Manufacturer_Name: UDE Corp; Manufacturer_Part_Number: RB1-125B8G1A; Datasheet Link: https://lcsc.com/product-detail/Ethernet-Connectors-Modular-Connectors-RJ45-RJ11_UDE-Corp-RB1-125B8G1A_C363353.html; Height: 13.6mm
footprint RB1-125B8G1A
pins: L1 LEDY+, L2 LEDY-, L3 LEDG+, L4 LEDG-, MH1, MH2, R1 CT, R2 TD1+, R3 TD1-, R4 TD2+, R5 TD2-, R6 TD3+, R7 TD3-, R8 TD4+, R9 TD4-, R10 GND_

## RB1-125BAG1A
designator J?
Connector; Manufacturer_Name: Wiznet Technology; Manufacturer_Part_Number: RB1-125BAG1A; Datasheet Link: https://www.wiznet.hk/en/accessories/68-rb1-125bag1a.html; Height: 13.6mm; Arrow Part Number: RB1-125BAG1A; Arrow Price/Stock: https://www.arrow.com/en/products/rb1-125bag1a/wiznet
footprint RB1-125BAG1A
pins: L1 A_YELLOW, L2 K_YELLOW, L3 A_GREEN, L4 K_GREEN, R1 TD+, R2 TD-, R3 CT, R4 NC_1, R5 NC_2, R6 NC_3, R7 RD+, R8 RD-, S1 SHIELD_1, S2 SHIELD_2

## REF6233IDGK
designator IC?
Integrated Circuit; Manufacturer_Name: Texas Instruments; Manufacturer_Part_Number: REF6233IDGKT; Datasheet Link: http://www.ti.com/general/docs/lit/getliterature.tsp?genericPartNumber=REF6233&fileType=pdf; Height: 1.1mm; Mouser Part Number: 595-REF6233IDGKT; Mouser Price/Stock: https://www.mouser.co.uk/ProductDetail/Texas-Instruments/REF6233IDGKT?qs=KuuZdrM3jLyWMbPtEfpILw%3D%3D; Arrow Part Number: REF6233IDGKT; Arrow Price/Stock: https://www.arrow.com/en/products/ref6233idgkt/texas-instruments
footprint REF6233IDGK (电压基准IC)
pins: 1 VIN (power), 2 EN (in), 3 SS (io), 4 FILT (io), 5 OUT_S (in), 6 OUT_F (out), 7 GND_F (power), 8 GND_S (power)

## RGB侧
designator RGB?
RGB
footprint RGB侧
pins: 1 VCC, 2 B, 3 G, 4 R

## RJ45
designator J?
Connector
footprint RJ45-HY911130A
pins: 1 CT1, 2 MDI_0+, 3 MDI_0-, 4 MDI_1+, 5 MDI_1-, 6 MDI_2+, 7 MDI_2-, 8 MDI_3+, 9 MDI_3-, 10 CT2, 11 GREEN+, 12 GREEN-, 13 YELLOW-, 14 YELLOW+, 15 GND, 16 GND

## RJ45-HR911105A
designator J?
Connector; Manufacturer_Name: Hanrun Electronics; Manufacturer_Part_Number: HR911105A; Datasheet Link: https://datasheet.lcsc.com/szlcsc/Zhongshan-HanRun-Elec-HR911105A_C12074.pdf; Height: 13.75mm
footprint RJ45-HR911105A
pins: 1 TD+, 2 TD-, 3 RD+, 4, 5, 6 RD-, 7 NC, 8 GND, 9 LED_G+, 10 LED_G-, 11 LED_Y-, 12 LED_Y+, MH1, MH2

## RT9026GFP
designator IC?
Integrated Circuit; Manufacturer_Name: RICHTEK; Manufacturer_Part_Number: RT9026GFP; Datasheet Link: https://4donline.ihs.com/images/VipMasterIC/IC/RHTK/RHTK-S-A0012962407/RHTK-S-A0012962407-1.pdf?hkey=EF798316E3902B6ED9A73243A3159BB0; Height: 1.1mm
footprint RT9026GFP
pins: 1 VDDQSNS, 2 VLDOIN, 3 VTT, 4 PGND, 5 VTTSNS, 6 VTTREF, 7 S3, 8 GND, 9 S5, 10 VIN, 11 EP

## RTL8211F-CG
designator IC?
Integrated Circuit; Manufacturer_Name: Realtek; Manufacturer_Part_Number: RTL8211F-CG; Height: 0.9mm
footprint WQFN40-EP
pins: 1 MDIP0, 2 MDIN0, 3 AVDD10_1, 4 MDIP1, 5 MDIN1, 6 MDIP2, 7 MDIN2, 8 AVDD10_2, 9 MDIP3, 10 MDIN3, 11 AVDD33_1, 12 PHYRSTB, 13 MDC, 14 MDIO, 15 TXD3, 16 TXD2, 17 TXD1, 18 TXD0, 19 TXCTL, 20 TXC, 21 DVDD10, 22 RXD3/PHYAD0, 23 RXD2/PLLOFF, 24 RXD1/TXDLY, 25 RXD0/RXDLY, 26 RXCTL/PHYAD2, 27 RXC/PHYAD1, 28 DVDD_RG, 29 DVDD33, 30 REG_OUT, 31 INTB/PMEB, 32 LED0/CFG_EXT, 33 LED1/CFG_LDO0, 34 LED2/CFG_LDO1, 35 CLKOUT, 36 XTAL_IN, 37 XTAL_OUT/EXT_CLK, 38 AVDD10_3, 39 RSET, 40 AVDD33_2, 41 EP

## RTL8723DS
designator IC?
Integrated Circuit; Manufacturer_Name: Realtek; Manufacturer_Part_Number: RTL8723BS; Datasheet Link: http://files.pine64.org/doc/datasheet/pine64/RTL8723BS.pdf; Height: 1.8mm
footprint WQFN48-EP
pins: 1 GND_1, 2 WIFI/BT_ANT, 3 NC_1, 4 FM_RX, 5 NC_3, 6 BT_HOST_WAKE_DEV, 7 BT_DEV_WAKE_HOST, 8 CLK_REQ, 9 VD33, 10 NC_5, 11 NC_6, 12 WL_DIS#, 13 WL_DEV_WAKE_HOST, 14 SD_D2, 15 SD_D3, 16 SD_CMD, 17 SD_CLK, 18 SD_D0, 19 SD_D1, 20 GND_2, 21 VIN_LDO_OUT, 22 VDD_IO, 23 VIN_LDO, 24 SUSCLK_IN, 25 PCM_DOUT, 26 PCM_CLK, 27 PCM_DIN, 28 PCM_SYNC, 29 NC_9, 30 NC_10, 31 GND_3, 32 NC_11, 33 GND_4, 34 BT_DIS#, 35 NC_12, 36 GND_5, 37 NC_13, 38 NC_14, 39 GPIO2, 40 GPIO1, 41 UART_RTS, 42 UART_TXD, 43 UART_RXD, 44 UART_CTS

## SD CARD-5033981892
designator J?
Connector; Manufacturer_Name: Molex; Manufacturer_Part_Number: 0472192001; Datasheet Link: https://www.molex.com/pdm_docs/sd/472192001_sd.pdf; Height: 1.9mm; Mouser Part Number: N/A; Mouser Price/Stock: https://www.mouser.com/Search/Refine.aspx?Keyword=N%2FA; Arrow Part Number: 0472192001; Arrow Price/Stock: https://www.arrow.com/en/products/0472192001/molex
footprint SD_CARD-5033981892
pins: 1 DAT2, 2 CD/DAT3^2, 3 CMD, 4 VDD (power), 5 CLK, 6 VSS (power), 7 DAT0, 8 DAT1, 9 VSS (power), 10 DETECT_SWITCH, P1 SHIELD, P2 SHIELD, P3 SHIELD, P4 SHIELD

## SH1.0 Connector 3P卧
designator J?
Connector; Manufacturer_Name: JST (JAPAN SOLDERLESS TERMINALS); Manufacturer_Part_Number: SM04B-SRSS-TB(LFSN)
footprint SH1.0卧3P
pins: 1, 2, 3, MP1, MP2

## SH1.0 Connector 4P卧
designator J?
Connector; Manufacturer_Name: JST (JAPAN SOLDERLESS TERMINALS); Manufacturer_Part_Number: SM04B-SRSS-TB(LFSN)
footprint SH1.0卧4P
pins: 1, 2, 3, 4, MP1, MP2

## SH1.0 Connector 6P卧
designator J?
Connector; Manufacturer_Name: JST (JAPAN SOLDERLESS TERMINALS); Manufacturer_Part_Number: SM06B-SRSS-TB (LF)(SN); Datasheet Link: http://uk.rs-online.com/web/p/products/5468827
footprint SH1.0卧6P
pins: 1, 2, 3, 4, 5, 6, MP1, MP2

## SH1.0 Connector 10P卧
designator J?
Connector; Manufacturer_Name: JST (JAPAN SOLDERLESS TERMINALS); Manufacturer_Part_Number: SM10B-SRSS-TB(LF)(SN); Datasheet Link: http://www.jst-mfg.com/product/pdf/eng/eSR.pdf; Arrow Part Number: SM10B-SRSS-TB(LF)(SN); Arrow Price/Stock: https://www.arrow.com/en/products/sm10b-srss-tb-lf-sn/jst-manufacturing
footprint SH1.0卧10P
pins: 1, 2, 3, 4, 5, 6, 7, 8, 9, 10, MP1, MP2

## SH1.0 Connector 12P卧
designator J?
Connector; Manufacturer_Name: JST (JAPAN SOLDERLESS TERMINALS); Manufacturer_Part_Number: SM10B-SRSS-TB(LF)(SN); Datasheet Link: http://www.jst-mfg.com/product/pdf/eng/eSR.pdf; Arrow Part Number: SM10B-SRSS-TB(LF)(SN); Arrow Price/Stock: https://www.arrow.com/en/products/sm10b-srss-tb-lf-sn/jst-manufacturing
footprint SH1.0卧12P
pins: 1, 2, 3, 4, 5, 6, 7, 8, 9, 10, 11, 12, MP1, MP2

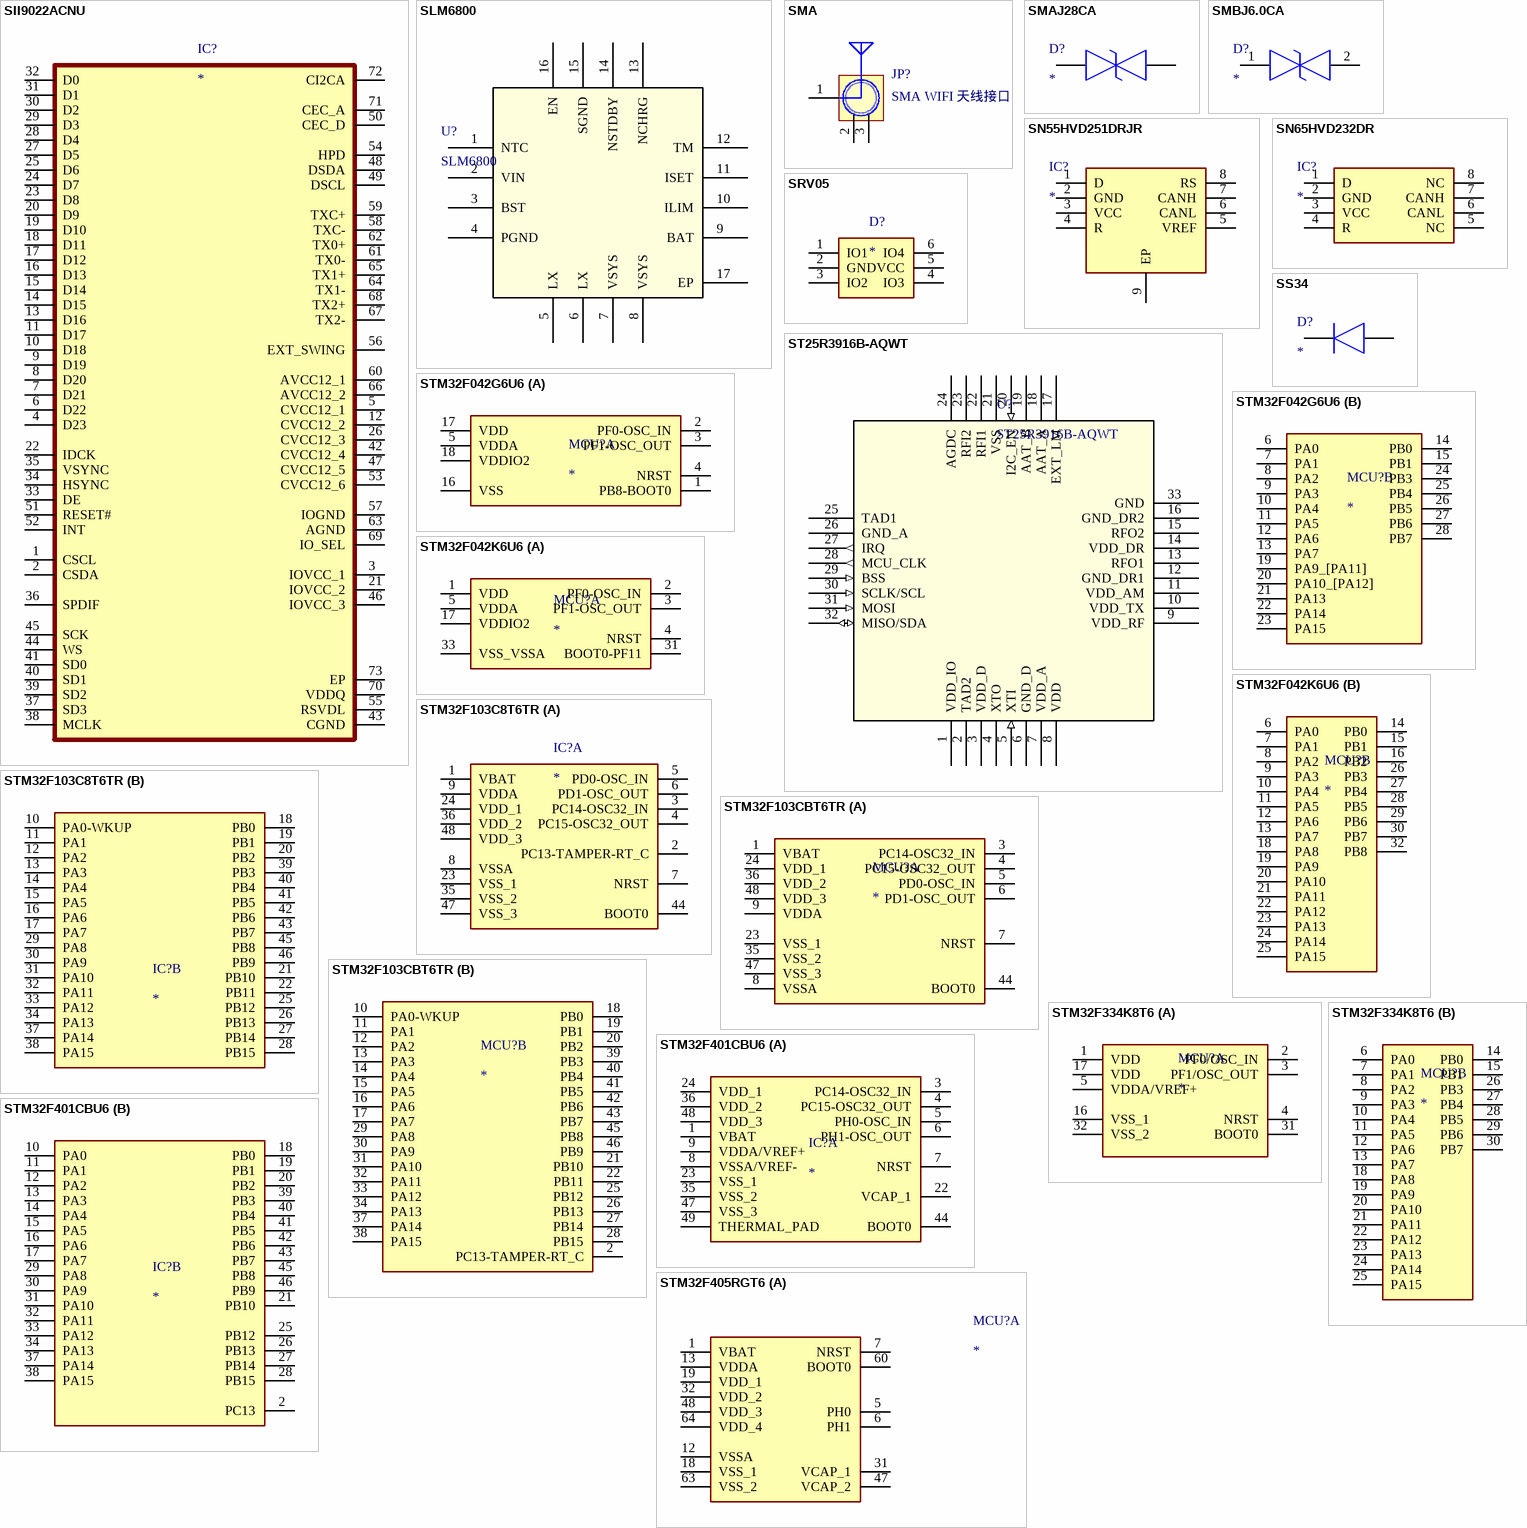
[diagram p6: symbols SII9022ACNU to STM32F405RGT6]

## SII9022ACNU
designator IC?
Integrated Circuit; Manufacturer_Name: Lattice Semiconductor; Manufacturer_Part_Number: SII9022ACNUTR; Height: 0.9mm; Mouser Part Number: N/A; Mouser Price/Stock: https://www.mouser.co.uk/ProductDetail/Lattice/SII9022ACNUTR?qs=r5DSvlrkXmLhItAO6heK4A%3D%3D
footprint SII9022ACNU
pins: 1 CSCL, 2 CSDA, 3 IOVCC_1, 4 D23, 5 CVCC12_1, 6 D22, 7 D21, 8 D20, 9 D19, 10 D18, 11 D17, 12 CVCC12_2, 13 D16, 14 D15, 15 D14, 16 D13, 17 D12, 18 D11, 19 D10, 20 D9, 21 IOVCC_2, 22 IDCK, 23 D8, 24 D7, 25 D6, 26 CVCC12_3, 27 D5, 28 D4, 29 D3, 30 D2, 31 D1, 32 D0, 33 DE, 34 HSYNC, 35 VSYNC, 36 SPDIF, 37 SD3, 38 MCLK, 39 SD2, 40 SD1, 41 SD0, 42 CVCC12_4, 43 CGND, 44 WS, 45 SCK, 46 IOVCC_3, 47 CVCC12_5, 48 DSDA, 49 DSCL, 50 CEC_D, 51 RESET#, 52 INT, 53 CVCC12_6, 54 HPD, 55 RSVDL, 56 EXT_SWING, 57 IOGND, 58 TXC-, 59 TXC+, 60 AVCC12_1, 61 TX0-, 62 TX0+, 63 AGND, 64 TX1-, 65 TX1+, 66 AVCC12_2, 67 TX2-, 68 TX2+, 69 IO_SEL, 70 VDDQ, 71 CEC_A, 72 CI2CA, 73 EP

## SLM6800
designator U?
Power Manager; Mfr_Name: SOLA-IC; Type: DEV; Copyright: Copyright (C) 2023 Ultra Librarian. All rights reserved.; Manufacturer_Part_Number: SLM6800; RefDes: RefDes
footprint QFN4X4-16L
pins: 1 NTC, 2 VIN, 3 BST, 4 PGND (power), 5 LX, 6 LX, 7 VSYS, 8 VSYS, 9 BAT, 10 ILIM, 11 ISET, 12 TM, 13 NCHRG, 14 NSTDBY, 15 SGND (power), 16 EN, 17 EP

## SMA
designator JP?, comment SMA WIFI 天线接口
SMA-2.4G射频天线接口; 版权归属: 源创客; BOM名称: SMA-2.4G射频天线接口; 学习资源: www.ooocke.com
footprint SMA-KE-LI (SMA 立式直插射频天线座)
footprint SMA_FR (SMA 90度射频天线座)
pins: 1 ANT, 2 GND, 3 GND

## SMAJ28CA
designator D?
TVS Diode (Bi-directional); Manufacturer_Name: Bourns; Manufacturer_Part_Number: SMAJ28CA; Datasheet Link: https://www.bourns.com/data/global/pdfs/SMAJ.pdf; Height: 2.62mm; Mouser Part Number: 652-SMAJ28CA; Mouser Price/Stock: https://www.mouser.co.uk/ProductDetail/Bourns/SMAJ28CA?qs=A3H9pljuJ8Rc2FOBsYvsOw%3D%3D; Arrow Part Number: SMAJ28CA; Arrow Price/Stock: https://www.arrow.com/en/products/smaj28ca/bourns
footprint SMAJ28CA
pins: 1, 2

## SMBJ6.0CA
designator D?
TVS Diode (Bi-directional); Manufacturer_Name: LITTELFUSE; Manufacturer_Part_Number: SMBJ6.0CA; Datasheet Link: https://m.littelfuse.com/~/media/electronics/datasheets/tvs_diodes/littelfuse_tvs_diode_smbj_datasheet.pdf.pdf; Height: 2.61mm; Mouser Part Number: 576-SMBJ6.0CA; Mouser Price/Stock: https://www.mouser.co.uk/ProductDetail/Littelfuse/SMBJ6.0CA?qs=zHiv0nsVGmov24PTfOWcJA%3D%3D; Arrow Part Number: SMBJ6.0CA; Arrow Price/Stock: https://www.arrow.com/en/products/smbj6.0ca/littelfuse?region=nac
footprint SMBJ6.0CA
pins: 1, 2

## SN55HVD251DRJR
designator IC?
Integrated Circuit; Manufacturer_Name: Texas Instruments; Manufacturer_Part_Number: SN55HVD251DRJR; Datasheet Link: https://www.ti.com/lit/ds/symlink/sn55hvd251.pdf?HQS=dis-mous-null-mousermode-dsf-pf-null-wwe&ts=1629994741816&ref_url=https%253A%252F%252Fwww.mouser.com%252F; Height: 0.8mm; Mouser Part Number: 595-SN55HVD251DRJR; Mouser Price/Stock: https://www.mouser.co.uk/ProductDetail/Texas-Instruments/SN55HVD251DRJR?qs=BmtUOLWBNQqh9YE56IZ4Wg%3D%3D
footprint SN55HVD251DRJR
pins: 1 D, 2 GND, 3 VCC, 4 R, 5 VREF, 6 CANL, 7 CANH, 8 RS, 9 EP

## SN65HVD232DR
designator IC?
Integrated Circuit; Manufacturer_Name: Texas Instruments; Manufacturer_Part_Number: SN65HVD232DR; Datasheet Link: http://www.ti.com/lit/gpn/sn65hvd232; Height: 1.75mm; Mouser Part Number: 595-SN65HVD232DR; Mouser Price/Stock: https://www.mouser.co.uk/ProductDetail/Texas-Instruments/SN65HVD232DR?qs=QViXGNcIEAtY%252BrViRMr46w%3D%3D; Arrow Part Number: SN65HVD232DR; Arrow Price/Stock: https://www.arrow.com/en/products/sn65hvd232dr/texas-instruments?region=nac
footprint SN65HVD232DR
pins: 1 D, 2 GND, 3 VCC, 4 R, 5 NC, 6 CANL, 7 CANH, 8 NC

## SRV05
designator D?
TVS Diode (Uni-directional); Manufacturer_Name: SEMTECH; Manufacturer_Part_Number: SRV05-4.TCT; Datasheet Link: https://datasheet.datasheetarchive.com/originals/distributors/Datasheets-DGA26/1842016.pdf; Height: 1.45mm; Mouser Part Number: 947-SRV05-4.TCT; Mouser Price/Stock: https://www.mouser.co.uk/ProductDetail/Semtech/SRV05-4.TCT?qs=rBWM4%252BvDhIe0tfPjqKjR5Q%3D%3D; Arrow Part Number: SRV05-4.TCT; Arrow Price/Stock: https://www.arrow.com/en/products/srv05-4.tct/semtech?region=nac
footprint SOT23-6
pins: 1 IO1, 2 GND, 3 IO2, 4 IO3, 5 VCC, 6 IO4

## SS34
designator D?
Diode; Manufacturer_Name: Taiwan Semiconductor; Manufacturer_Part_Number: SS34LWHRVG; Datasheet Link: https://datasheet.datasheetarchive.com/originals/distributors/DKDS-20/389381.pdf; Height: 1.02mm; Mouser Part Number: 821-SS34LWHRVG; Mouser Price/Stock: https://www.mouser.co.uk/ProductDetail/Taiwan-Semiconductor/SS34LWHRVG?qs=5aG0NVq1C4zYvYQjFNyRbA%3D%3D; Arrow Part Number: SS34LWHRVG; Arrow Price/Stock: https://www.arrow.com/en/products/ss34lwhrvg/taiwan-semiconductor?region=nac
footprint SS34
pins: 1 K, 2 A

## ST25R3916B-AQWT
designator U?
No Description Available; Mfr_Name: STMicroelectronics; Type: DEV; Copyright: Copyright (C) 2024 Ultra Librarian. All rights reserved.; Manufacturer_Part_Number: ST25R3916B-AQWT; RefDes: RefDes
footprint VFQFPN32
pins: 1 VDD_IO (power), 2 TAD2, 3 VDD_D, 4 XTO, 5 XTI (in), 6 GND_D (power), 7 VDD_A, 8 VDD (power), 9 VDD_RF, 10 VDD_TX (power), 11 VDD_AM, 12 GND_DR1 (power), 13 RFO1, 14 VDD_DR (power), 15 RFO2, 16 GND_DR2 (power), 17 EXT_LM, 18 AAT_A, 19 AAT_B, 20 I2C_EN (in), 21 VSS (power), 22 RFI1, 23 RFI2, 24 AGDC, 25 TAD1, 26 GND_A (power), 27 IRQ (out), 28 MCU_CLK (out), 29 BSS (in), 30 SCLK/SCL (in), 31 MOSI (in), 32 MISO/SDA (io), 33 GND (power)

## STM32F042G6U6
designator MCU?
MCU; Manufacturer_Name: STMicroelectronics; Manufacturer_Part_Number: STM32F042G6U6; Datasheet Link: http://www.st.com/content/ccc/resource/technical/document/datasheet/52/ad/d0/80/e6/be/40/ad/DM00105814.pdf/files/DM00105814.pdf/jcr:content/translations/en.DM00105814.pdf; Height: 0.6mm; Mouser Part Number: 511-STM32F042G6U6; Mouser Price/Stock: https://www.mouser.co.uk/ProductDetail/STMicroelectronics/STM32F042G6U6?qs=4l9S5vBWkUK4FjFgFnucBQ%3D%3D; Arrow Part Number: STM32F042G6U6; Arrow Price/Stock: https://www.arrow.com/en/products/stm32f042g6u6/stmicroelectronics
footprint UFQFPN28
part A pins: 1 PB8-BOOT0, 2 PF0-OSC_IN, 3 PF1-OSC_OUT, 4 NRST, 5 VDDA, 16 VSS, 17 VDD, 18 VDDIO2
part B pins: 6 PA0, 7 PA1, 8 PA2, 9 PA3, 10 PA4, 11 PA5, 12 PA6, 13 PA7, 14 PB0, 15 PB1, 19 PA9_[PA11], 20 PA10_[PA12], 21 PA13, 22 PA14, 23 PA15, 24 PB3, 25 PB4, 26 PB5, 27 PB6, 28 PB7

## STM32F042K6U6
designator MCU?
MCU; Manufacturer_Name: STMicroelectronics; Manufacturer_Part_Number: STM32F042K6U6; Datasheet Link: https://componentsearchengine.com/Datasheets/5/STM32F042K6U6.pdf; Height: 0.6mm; Mouser Part Number: 511-STM32F042K6U6; Mouser Price/Stock: https://www.mouser.co.uk/ProductDetail/STMicroelectronics/STM32F042K6U6?qs=4l9S5vBWkUI1HFPPlP09zA%3D%3D; Arrow Part Number: STM32F042K6U6; Arrow Price/Stock: https://www.arrow.com/en/products/stm32f042k6u6/stmicroelectronics
footprint UFQFPN32
part A pins: 1 VDD, 2 PF0-OSC_IN, 3 PF1-OSC_OUT, 4 NRST, 5 VDDA, 17 VDDIO2, 31 BOOT0-PF11, 33 VSS_VSSA
part B pins: 6 PA0, 7 PA1, 8 PA2, 9 PA3, 10 PA4, 11 PA5, 12 PA6, 13 PA7, 14 PB0, 15 PB1, 16 PB2, 18 PA8, 19 PA9, 20 PA10, 21 PA11, 22 PA12, 23 PA13, 24 PA14, 25 PA15, 26 PB3, 27 PB4, 28 PB5, 29 PB6, 30 PB7, 32 PB8

## STM32F103C8T6TR
designator IC?
MCU
footprint LQFP48
part A pins: 1 VBAT, 2 PC13-TAMPER-RT_C, 3 PC14-OSC32_IN, 4 PC15-OSC32_OUT, 5 PD0-OSC_IN, 6 PD1-OSC_OUT, 7 NRST, 8 VSSA, 9 VDDA, 23 VSS_1, 24 VDD_1, 35 VSS_2, 36 VDD_2, 44 BOOT0, 47 VSS_3, 48 VDD_3
part B pins: 10 PA0-WKUP, 11 PA1, 12 PA2, 13 PA3, 14 PA4, 15 PA5, 16 PA6, 17 PA7, 18 PB0, 19 PB1, 20 PB2, 21 PB10, 22 PB11, 25 PB12, 26 PB13, 27 PB14, 28 PB15, 29 PA8, 30 PA9, 31 PA10, 32 PA11, 33 PA12, 34 PA13, 37 PA14, 38 PA15, 39 PB3, 40 PB4, 41 PB5, 42 PB6, 43 PB7, 45 PB8, 46 PB9

## STM32F103CBT6TR
designator MCU?
MCU; Manufacturer_Name: STMicroelectronics; Manufacturer_Part_Number: STM32F103CBT6TR; Datasheet Link: https://www.st.com/resource/en/datasheet/stm32f103cb.pdf; Height: 1.6mm; Mouser Part Number: 511-STM32F103CBT6TR; Mouser Price/Stock: https://www.mouser.co.uk/ProductDetail/STMicroelectronics/STM32F103CBT6TR?qs=SU4Xa%252BYHGQr0GBvhN6Y2ig%3D%3D; Arrow Part Number: STM32F103CBT6TR; Arrow Price/Stock: https://www.arrow.com/en/products/stm32f103cbt6tr/stmicroelectronics
footprint LQFP48
part A pins: 1 VBAT, 3 PC14-OSC32_IN, 4 PC15-OSC32_OUT, 5 PD0-OSC_IN, 6 PD1-OSC_OUT, 7 NRST, 8 VSSA, 9 VDDA, 23 VSS_1, 24 VDD_1, 35 VSS_2, 36 VDD_2, 44 BOOT0, 47 VSS_3, 48 VDD_3
part B pins: 2 PC13-TAMPER-RT_C, 10 PA0-WKUP, 11 PA1, 12 PA2, 13 PA3, 14 PA4, 15 PA5, 16 PA6, 17 PA7, 18 PB0, 19 PB1, 20 PB2, 21 PB10, 22 PB11, 25 PB12, 26 PB13, 27 PB14, 28 PB15, 29 PA8, 30 PA9, 31 PA10, 32 PA11, 33 PA12, 34 PA13, 37 PA14, 38 PA15, 39 PB3, 40 PB4, 41 PB5, 42 PB6, 43 PB7, 45 PB8, 46 PB9

## STM32F334K8T6
designator MCU?
MCU; Manufacturer_Name: STMicroelectronics; Manufacturer_Part_Number: STM32F334K8T6; Datasheet Link: http://www.st.com/content/ccc/resource/technical/document/datasheet/d1/cd/3d/18/a2/2c/4e/d0/DM00097745.pdf/files/DM00097745.pdf/jcr:content/translations/en.DM00097745.pdf; Height: 1.6mm; Mouser Part Number: 511-STM32F334K8T6; Mouser Price/Stock: https://www.mouser.co.uk/ProductDetail/STMicroelectronics/STM32F334K8T6?qs=9MuLHSklicqdmZhsdIQM6A%3D%3D; Arrow Part Number: STM32F334K8T6; Arrow Price/Stock: https://www.arrow.com/en/products/stm32f334k8t6/stmicroelectronics
footprint LQFP32
part A pins: 1 VDD, 2 PF0/OSC_IN, 3 PF1/OSC_OUT, 4 NRST, 5 VDDA/VREF+, 16 VSS_1, 17 VDD, 31 BOOT0, 32 VSS_2
part B pins: 6 PA0, 7 PA1, 8 PA2, 9 PA3, 10 PA4, 11 PA5, 12 PA6, 13 PA7, 14 PB0, 15 PB1, 18 PA8, 19 PA9, 20 PA10, 21 PA11, 22 PA12, 23 PA13, 24 PA14, 25 PA15, 26 PB3, 27 PB4, 28 PB5, 29 PB6, 30 PB7

## STM32F401CBU6
designator IC?
MCU; Manufacturer_Name: STMicroelectronics; Manufacturer_Part_Number: STM32F401CBU6; Datasheet Link: http://www.st.com/content/ccc/resource/technical/document/datasheet/9e/50/b1/5a/5f/ae/4d/c1/DM00086815.pdf/files/DM00086815.pdf/jcr:content/translations/en.DM00086815.pdf; Height: 0.6mm; Mouser Part Number: 511-STM32F401CBU6; Mouser Price/Stock: https://www.mouser.co.uk/ProductDetail/STMicroelectronics/STM32F401CBU6?qs=4ccVDqXDOrkbcUfWvo169Q%3D%3D; Arrow Part Number: STM32F401CBU6; Arrow Price/Stock: https://www.arrow.com/en/products/stm32f401cbu6/stmicroelectronics?region=nac
footprint UFQFPN48
part A pins: 1 VBAT (power), 3 PC14-OSC32_IN, 4 PC15-OSC32_OUT, 5 PH0-OSC_IN, 6 PH1-OSC_OUT, 7 NRST, 8 VSSA/VREF- (power), 9 VDDA/VREF+ (power), 22 VCAP_1 (power), 23 VSS_1 (power), 24 VDD_1 (power), 35 VSS_2 (power), 36 VDD_2 (power), 44 BOOT0, 47 VSS_3 (power), 48 VDD_3 (power), 49 THERMAL_PAD
part B pins: 2 PC13, 10 PA0, 11 PA1, 12 PA2, 13 PA3, 14 PA4, 15 PA5, 16 PA6, 17 PA7, 18 PB0, 19 PB1, 20 PB2, 21 PB10, 25 PB12, 26 PB13, 27 PB14, 28 PB15, 29 PA8, 30 PA9, 31 PA10, 32 PA11, 33 PA12, 34 PA13, 37 PA14, 38 PA15, 39 PB3, 40 PB4, 41 PB5, 42 PB6, 43 PB7, 45 PB8, 46 PB9

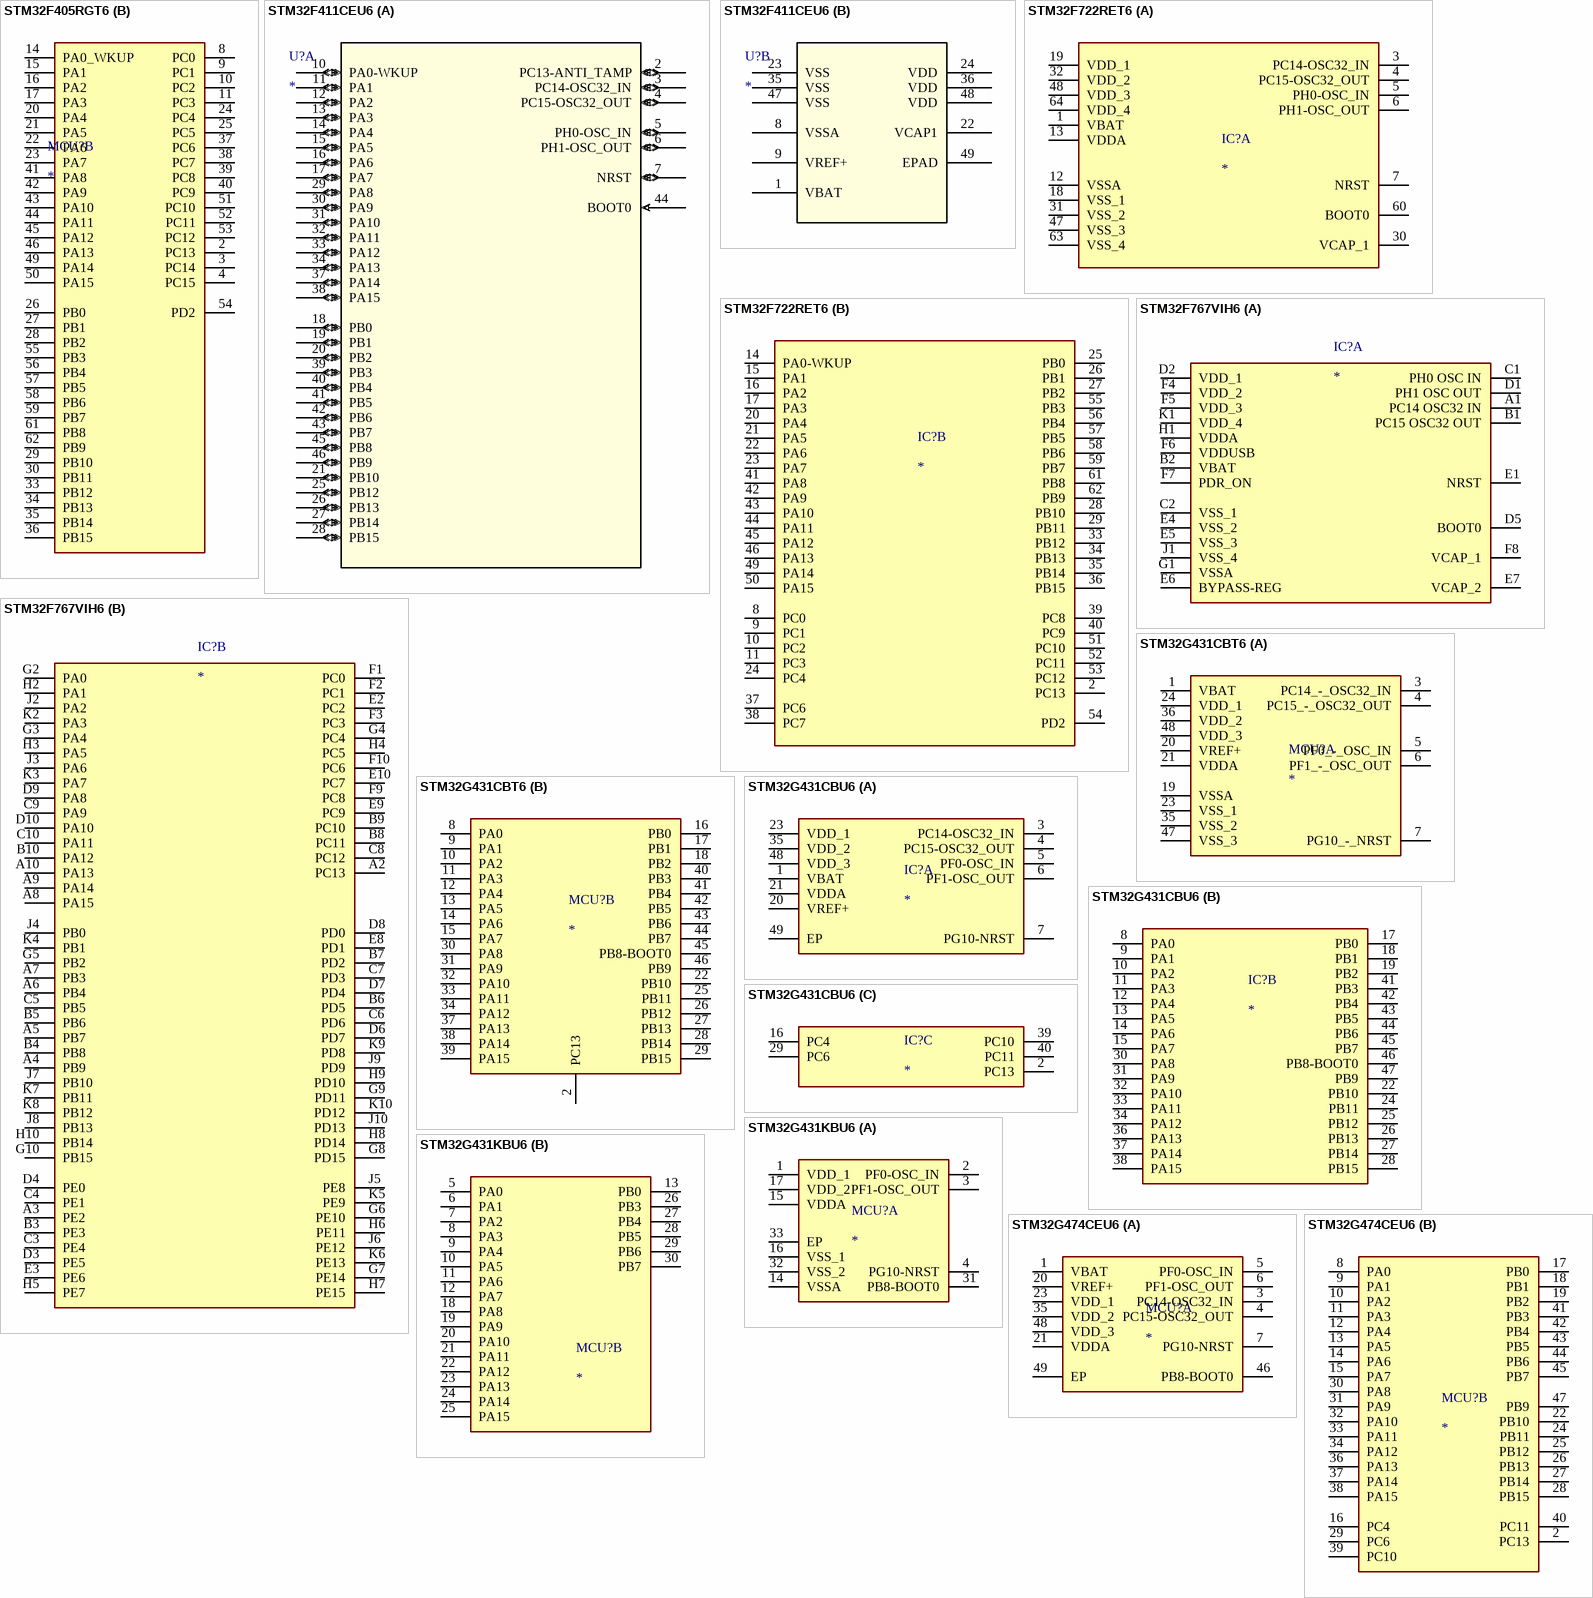
[diagram p7: symbols STM32F405RGT6 to STM32G474CEU6]

## STM32F405RGT6
designator MCU?
MCU; Manufacturer_Name: STMicroelectronics; Manufacturer_Part_Number: STM32F405RGT6; Datasheet Link: http://www.st.com/web/en/resource/technical/document/datasheet/DM00037051.pdf; Height: 1.6mm; Mouser Part Number: 511-STM32F405RGT6; Mouser Price/Stock: https://www.mouser.co.uk/ProductDetail/STMicroelectronics/STM32F405RGT6?qs=Z8%252BeY1k3TIKgj7QWsYGpQw%3D%3D; Arrow Part Number: STM32F405RGT6; Arrow Price/Stock: https://www.arrow.com/en/products/stm32f405rgt6/stmicroelectronics?region=nac
footprint LQFP64
part A pins: 1 VBAT, 5 PH0, 6 PH1, 7 NRST, 12 VSSA, 13 VDDA, 18 VSS_1, 19 VDD_1, 31 VCAP_1, 32 VDD_2, 47 VCAP_2, 48 VDD_3, 60 BOOT0, 63 VSS_2, 64 VDD_4
part B pins: 2 PC13, 3 PC14, 4 PC15, 8 PC0, 9 PC1, 10 PC2, 11 PC3, 14 PA0_WKUP, 15 PA1, 16 PA2, 17 PA3, 20 PA4, 21 PA5, 22 PA6, 23 PA7, 24 PC4, 25 PC5, 26 PB0, 27 PB1, 28 PB2, 29 PB10, 30 PB11, 33 PB12, 34 PB13, 35 PB14, 36 PB15, 37 PC6, 38 PC7, 39 PC8, 40 PC9, 41 PA8, 42 PA9, 43 PA10, 44 PA11, 45 PA12, 46 PA13, 49 PA14, 50 PA15, 51 PC10, 52 PC11, 53 PC12, 54 PD2, 55 PB3, 56 PB4, 57 PB5, 58 PB6, 59 PB7, 61 PB8, 62 PB9

## STM32F411CEU6
designator U?
MCU; Mfr_Name: STMicroelectronics; RefDes: RefDes; Type: Type
footprint UFQFPN48
part A pins: 2 PC13-ANTI_TAMP (io), 3 PC14-OSC32_IN (io), 4 PC15-OSC32_OUT (io), 5 PH0-OSC_IN (io), 6 PH1-OSC_OUT (io), 7 NRST (io), 10 PA0-WKUP (io), 11 PA1 (io), 12 PA2 (io), 13 PA3 (io), 14 PA4 (io), 15 PA5 (io), 16 PA6 (io), 17 PA7 (io), 18 PB0 (io), 19 PB1 (io), 20 PB2 (io), 21 PB10 (io), 25 PB12 (io), 26 PB13 (io), 27 PB14 (io), 28 PB15 (io), 29 PA8 (io), 30 PA9 (io), 31 PA10 (io), 32 PA11 (io), 33 PA12 (io), 34 PA13 (io), 37 PA14 (io), 38 PA15 (io), 39 PB3 (io), 40 PB4 (io), 41 PB5 (io), 42 PB6 (io), 43 PB7 (io), 44 BOOT0 (in), 45 PB8 (io), 46 PB9 (io)
part B pins: 1 VBAT (power), 8 VSSA (power), 9 VREF+ (power), 22 VCAP1 (power), 23 VSS (power), 24 VDD (power), 35 VSS (power), 36 VDD (power), 47 VSS (power), 48 VDD (power), 49 EPAD

## STM32F722RET6
designator IC?
MCU; Manufacturer_Name: STMicroelectronics; Manufacturer_Part_Number: STM32F722RET6; Datasheet Link: http://www.mouser.com/ds/2/389/en.DM00330506-1099201.pdf; Height: 1.6mm; Mouser Part Number: 511-STM32F722RET6; Mouser Price/Stock: https://www.mouser.co.uk/ProductDetail/STMicroelectronics/STM32F722RET6?qs=NoqMqJKvPFLRYC3WLxVXLQ%3D%3D; Arrow Part Number: STM32F722RET6; Arrow Price/Stock: https://www.arrow.com/en/products/stm32f722ret6/stmicroelectronics?region=nac
footprint LQFP64
part A pins: 1 VBAT, 3 PC14-OSC32_IN, 4 PC15-OSC32_OUT, 5 PH0-OSC_IN, 6 PH1-OSC_OUT, 7 NRST, 12 VSSA, 13 VDDA, 18 VSS_1, 19 VDD_1, 30 VCAP_1, 31 VSS_2, 32 VDD_2, 47 VSS_3, 48 VDD_3, 60 BOOT0, 63 VSS_4, 64 VDD_4
part B pins: 2 PC13, 8 PC0, 9 PC1, 10 PC2, 11 PC3, 14 PA0-WKUP, 15 PA1, 16 PA2, 17 PA3, 20 PA4, 21 PA5, 22 PA6, 23 PA7, 24 PC4, 25 PB0, 26 PB1, 27 PB2, 28 PB10, 29 PB11, 33 PB12, 34 PB13, 35 PB14, 36 PB15, 37 PC6, 38 PC7, 39 PC8, 40 PC9, 41 PA8, 42 PA9, 43 PA10, 44 PA11, 45 PA12, 46 PA13, 49 PA14, 50 PA15, 51 PC10, 52 PC11, 53 PC12, 54 PD2, 55 PB3, 56 PB4, 57 PB5, 58 PB6, 59 PB7, 61 PB8, 62 PB9

## STM32F767VIH6
designator IC?
MCU; Manufacturer_Name: STMicroelectronics; Manufacturer_Part_Number: STM32F767VIH6; Datasheet Link: https://www.st.com/resource/en/datasheet/stm32f767vi.pdf; Height: 1.1mm; Mouser Part Number: 511-STM32F767VIH6; Mouser Price/Stock: https://www.mouser.co.uk/ProductDetail/STMicroelectronics/STM32F767VIH6?qs=5aG0NVq1C4yUww13GyBTYQ%3D%3D; Arrow Part Number: STM32F767VIH6; Arrow Price/Stock: https://www.arrow.com/en/products/stm32f767vih6/stmicroelectronics?region=nac
footprint TFBGA100
part A pins: A1 PC14 OSC32 IN, B1 PC15 OSC32 OUT, B2 VBAT, C1 PH0 OSC IN, C2 VSS_1, D1 PH1 OSC OUT, D2 VDD_1, D5 BOOT0, E1 NRST, E4 VSS_2, E5 VSS_3, E6 BYPASS-REG, E7 VCAP_2, F4 VDD_2, F5 VDD_3, F6 VDDUSB, F7 PDR_ON, F8 VCAP_1, G1 VSSA, H1 VDDA, J1 VSS_4, K1 VDD_4
part B pins: A2 PC13, A3 PE2, A4 PB9, A5 PB7, A6 PB4, A7 PB3, A8 PA15, A9 PA14, A10 PA13, B3 PE3, B4 PB8, B5 PB6, B6 PD5, B7 PD2, B8 PC11, B9 PC10, B10 PA12, C3 PE4, C4 PE1, C5 PB5, C6 PD6, C7 PD3, C8 PC12, C9 PA9, C10 PA11, D3 PE5, D4 PE0, D6 PD7, D7 PD4, D8 PD0, D9 PA8, D10 PA10, E2 PC2, E3 PE6, E8 PD1, E9 PC9, E10 PC7, F1 PC0, F2 PC1, F3 PC3, F9 PC8, F10 PC6, G2 PA0, G3 PA4, G4 PC4, G5 PB2, G6 PE10, G7 PE14, G8 PD15, G9 PD11, G10 PB15, H2 PA1, H3 PA5, H4 PC5, H5 PE7, H6 PE11, H7 PE15, H8 PD14, H9 PD10, H10 PB14, J2 PA2, J3 PA6, J4 PB0, J5 PE8, J6 PE12, J7 PB10, J8 PB13, J9 PD9, J10 PD13, K2 PA3, K3 PA7, K4 PB1, K5 PE9, K6 PE13, K7 PB11, K8 PB12, K9 PD8, K10 PD12

## STM32G431CBT6
designator MCU?
MCU; Manufacturer_Name: STMicroelectronics; Manufacturer_Part_Number: STM32G431CBT6; Datasheet Link: https://www.st.com/resource/en/datasheet/stm32g431cb.pdf; Height: 1.6mm; Mouser Part Number: 511-STM32G431CBT6; Mouser Price/Stock: https://www.mouser.co.uk/ProductDetail/STMicroelectronics/STM32G431CBT6?qs=T3oQrply3y8OocyGDXq5wg%3D%3D; Arrow Part Number: STM32G431CBT6; Arrow Price/Stock: https://www.arrow.com/en/products/stm32g431cbt6/stmicroelectronics?region=nac
footprint LQFP48
part A pins: 1 VBAT, 3 PC14_-_OSC32_IN, 4 PC15_-_OSC32_OUT, 5 PF0_-_OSC_IN, 6 PF1_-_OSC_OUT, 7 PG10_-_NRST, 19 VSSA, 20 VREF+, 21 VDDA, 23 VSS_1, 24 VDD_1, 35 VSS_2, 36 VDD_2, 47 VSS_3, 48 VDD_3
part B pins: 2 PC13, 8 PA0, 9 PA1, 10 PA2, 11 PA3, 12 PA4, 13 PA5, 14 PA6, 15 PA7, 16 PB0, 17 PB1, 18 PB2, 22 PB10, 25 PB11, 26 PB12, 27 PB13, 28 PB14, 29 PB15, 30 PA8, 31 PA9, 32 PA10, 33 PA11, 34 PA12, 37 PA13, 38 PA14, 39 PA15, 40 PB3, 41 PB4, 42 PB5, 43 PB6, 44 PB7, 45 PB8-BOOT0, 46 PB9

## STM32G431CBU6
designator IC?
MCU; Manufacturer_Name: STMicroelectronics; Manufacturer_Part_Number: STM32G431CBU6; Datasheet Link: https://www.st.com/resource/en/datasheet/stm32g431cb.pdf; Height: 0.65mm; Mouser Part Number: 511-STM32G431CBU6; Mouser Price/Stock: https://www.mouser.co.uk/ProductDetail/STMicroelectronics/STM32G431CBU6?qs=T3oQrply3y%252B0hTuSHQ7oqA%3D%3D; Arrow Part Number: STM32G431CBU6; Arrow Price/Stock: https://www.arrow.com/en/products/stm32g431cbu6/stmicroelectronics?region=nac
footprint UFQFPN48
part A pins: 1 VBAT, 3 PC14-OSC32_IN, 4 PC15-OSC32_OUT, 5 PF0-OSC_IN, 6 PF1-OSC_OUT, 7 PG10-NRST, 20 VREF+, 21 VDDA, 23 VDD_1, 35 VDD_2, 48 VDD_3, 49 EP
part B pins: 8 PA0, 9 PA1, 10 PA2, 11 PA3, 12 PA4, 13 PA5, 14 PA6, 15 PA7, 17 PB0, 18 PB1, 19 PB2, 22 PB10, 24 PB11, 25 PB12, 26 PB13, 27 PB14, 28 PB15, 30 PA8, 31 PA9, 32 PA10, 33 PA11, 34 PA12, 36 PA13, 37 PA14, 38 PA15, 41 PB3, 42 PB4, 43 PB5, 44 PB6, 45 PB7, 46 PB8-BOOT0, 47 PB9
part C pins: 2 PC13, 16 PC4, 29 PC6, 39 PC10, 40 PC11